# Altium integrated library Altera APEX 20KE.IntLib: 235 symbols (part 17 of 49)
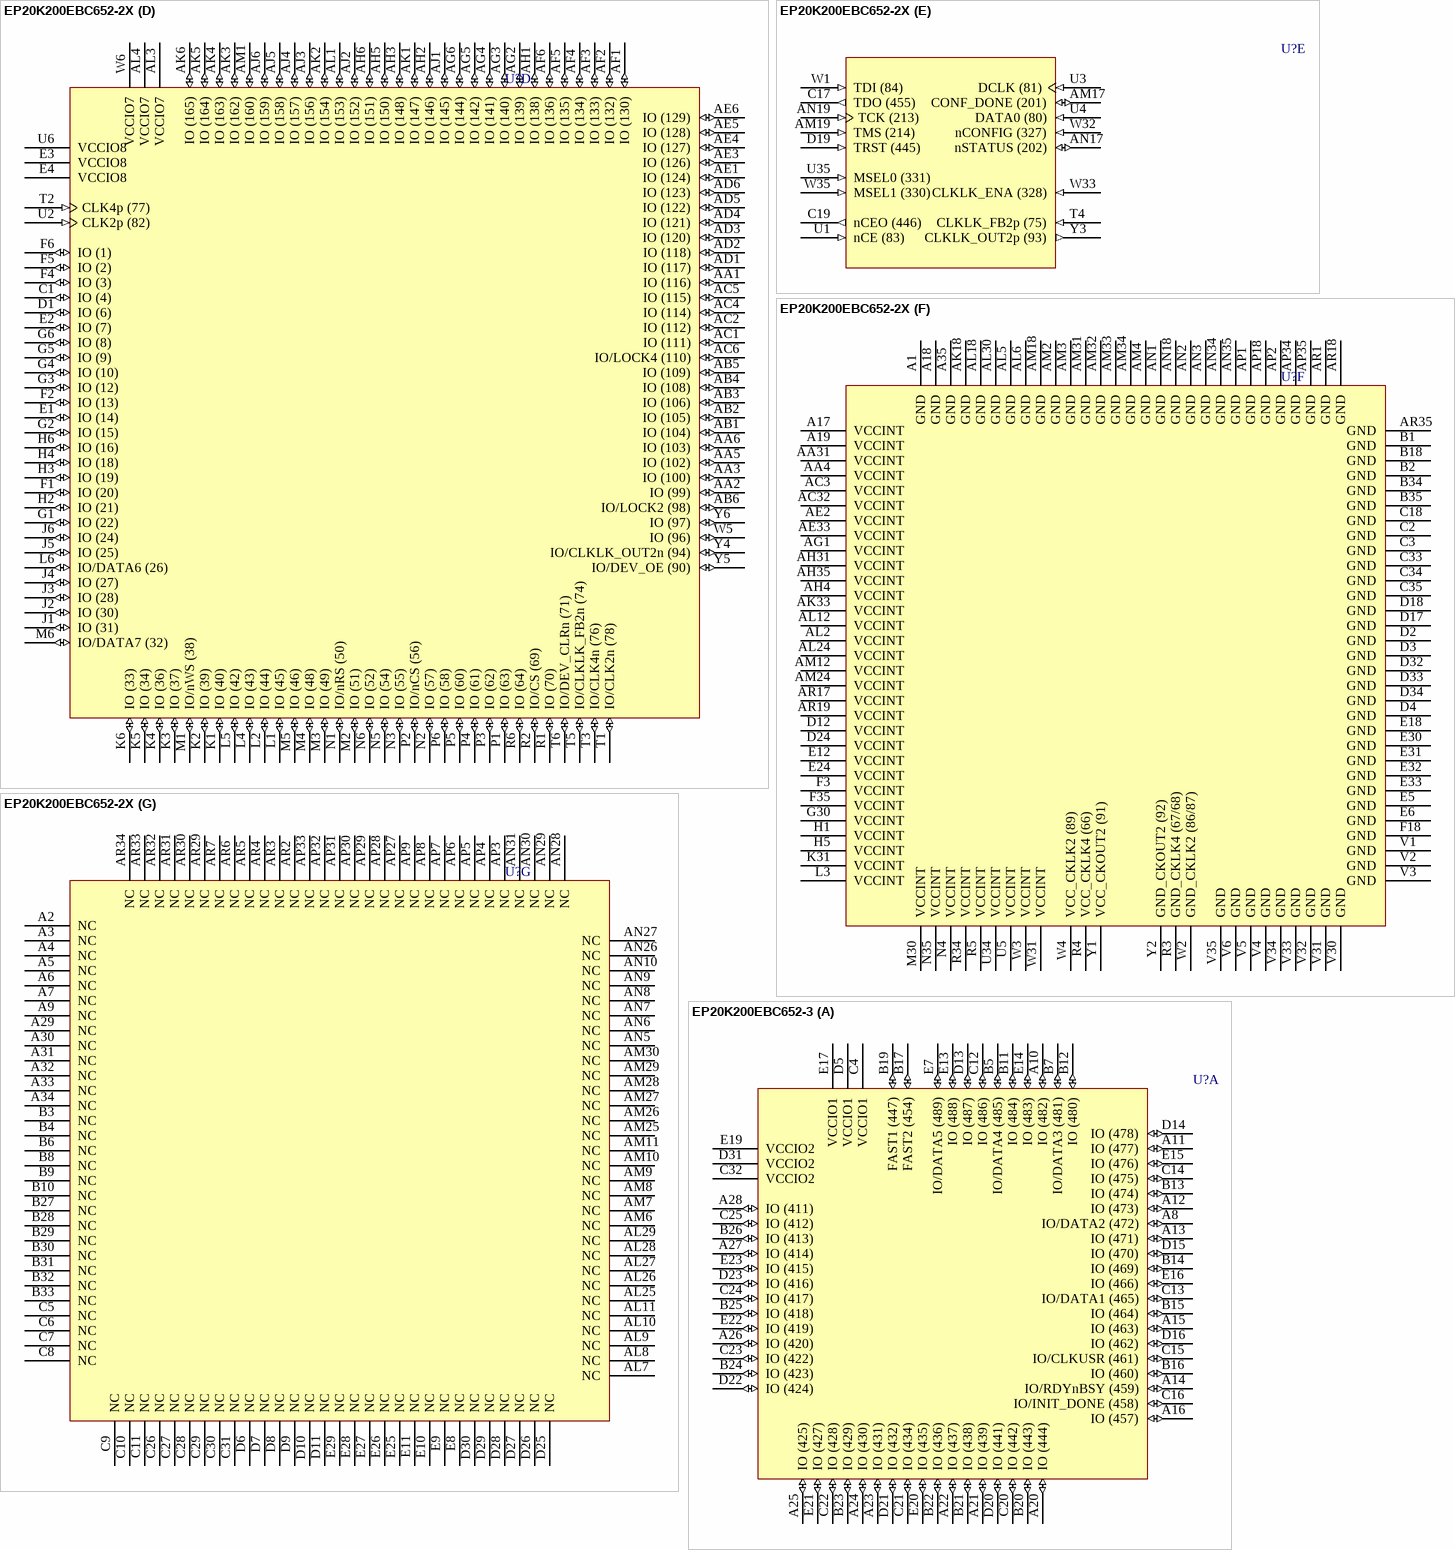
[diagram p415: symbols EP20K200EBC652-2X to EP20K200EBC652-3]

## EP20K200EBC652-2X
designator U?
APEX 20K200E PLD with PLLs and LVDS, 652-Pin BGA, Commercial Grade, Speed Grade 2; Published: 17-Jul-2002; LatestRevisionDate: 13-Apr-2006; LatestRevisionNote: IPC-7351 Footprint Added.; DatasheetVersion: Mar-2004; PackageVersion: ver14.1, Oct-2005; PackageReference: BGA652; Publisher: Altium Limited; PackageDescription: 652-Ball Ball Grid Array (BGA652); Code_JEDEC: MO-192-BAW-1; ComponentLink1Description: Manufacturer Link; ComponentLink1URL: http://www.altera.com/products/devices/apex/apx-index.html; ComponentLink2Description: Datasheet; ComponentLink2URL: http://www.altera.com/literature/ds/apex.pdf
footprint BGA652 (BGA, 652-Leads, Body 45x45mm, Pitch 1.27mm)
3D model EP20K200E-BGA652 (652-Ball Ball Grid Array (BGA652))
part A pins: A8 IO/DATA2 (472) (io), A10 IO (482) (io), A11 IO (477) (io), A12 IO (473) (io), A13 IO (471) (io), A14 IO/RDYnBSY (459) (io), A15 IO (463) (io), A16 IO (457) (io), A20 IO (444) (io), A21 IO (439) (io), A22 IO (437) (io), A23 IO (431) (io), A24 IO (430) (io), A25 IO (425) (io), A26 IO (420) (io), A27 IO (414) (io), A28 IO (411) (io), B5 IO/DATA4 (485) (io), B7 IO/DATA3 (481) (io), B11 IO (484) (io), B12 IO (480) (io), B13 IO (474) (io), B14 IO (469) (io), B15 IO (464) (io), B16 IO (460) (io), B17 FAST2 (454) (io), B19 FAST1 (447) (io), B20 IO (443) (io), B21 IO (438) (io), B22 IO (436) (io), B23 IO (429) (io), B24 IO (423) (io), B25 IO (418) (io), B26 IO (413) (io), C4 VCCIO1 (power), C12 IO (486) (io), C13 IO/DATA1 (465) (io), C14 IO (475) (io), C15 IO/CLKUSR (461) (io), C16 IO/INIT_DONE (458) (io), C20 IO (442) (io), C21 IO (434) (io), C22 IO (428) (io), C23 IO (422) (io), C24 IO (417) (io), C25 IO (412) (io), C32 VCCIO2 (power), D5 VCCIO1 (power), D13 IO (487) (io), D14 IO (478) (io), D15 IO (470) (io), D16 IO (462) (io), D20 IO (441) (io), D21 IO (432) (io), D22 IO (424) (io), D23 IO (416) (io), D31 VCCIO2 (power), E7 IO/DATA5 (489) (io), E13 IO (488) (io), E14 IO (483) (io), E15 IO (476) (io), E16 IO (466) (io), E17 VCCIO1 (power), E19 VCCIO2 (power), E20 IO (435) (io), E21 IO (427) (io), E22 IO (419) (io), E23 IO (415) (io)
part B pins: AA30 IO (313) (io), AA32 IO (315) (io), AA33 IO (316) (io), AA34 IO (317) (io), AA35 IO (318) (io), AB30 IO (306) (io), AB31 IO (307) (io), AB32 IO (309) (io), AB33 IO (310) (io), AB34 IO (311) (io), AB35 IO (312) (io), AC30 IO (300) (io), AC31 IO (301) (io), AC33 IO (303) (io), AC34 IO (304) (io), AC35 IO (305) (io), AD30 IO (293) (io), AD31 IO (294) (io), AD32 IO (295) (io), AD33 IO (297) (io), AD34 IO (298) (io), AD35 IO (299) (io), AE30 IO (287) (io), AE31 IO (288) (io), AE32 IO (289) (io), AE34 IO (291) (io), AE35 IO (292) (io), AF30 IO (280) (io), AF31 IO (281) (io), AF32 IO (282) (io), AF33 IO (283) (io), AF34 IO (285) (io), AF35 IO (286) (io), AG30 IO (273) (io), AG31 IO (274) (io), AG32 IO (275) (io), AG33 IO (276) (io), AG34 IO (277) (io), AG35 IO (279) (io), AH30 IO (265) (io), AH32 IO (267) (io), AH33 IO (268) (io), AH34 IO (270) (io), AJ30 IO (257) (io), AJ31 IO (258) (io), AJ32 IO (259) (io), AJ33 IO (261) (io), AJ34 IO (264) (io), AJ35 IO (271) (io), AK30 IO (251) (io), AK31 IO (252) (io), AK32 IO (253) (io), AK34 IO (262) (io), AK35 IO (269) (io), AL31 VCCIO4 (power), AL32 VCCIO4 (power), AL33 IO (250) (io), AL34 IO (255) (io), AL35 IO (263) (io), AM35 IO (256) (io), D35 IO (405) (io), E34 IO (406) (io), E35 IO (399) (io), F30 VCCIO3 (power), F31 VCCIO3 (power), F32 IO (408) (io), F33 IO (407) (io), F34 IO (400) (io), G31 IO (403) (io), G32 IO (402) (io), G33 IO (401) (io), G34 IO (397) (io), G35 IO (390) (io), H30 IO (396) (io), H31 IO (395) (io), H32 IO (394) (io), H33 IO (393) (io), H34 IO (391) (io), H35 IO (383) (io), J30 IO (389) (io), J31 IO (388) (io), J32 IO (387) (io), J33 IO (385) (io), J34 IO (384) (io), J35 IO (382) (io), K30 IO (381) (io), K32 IO (379) (io), K33 IO (378) (io), K34 IO (377) (io), K35 IO (376) (io), L30 IO (375) (io), L31 IO (373) (io), L32 IO (372) (io), L33 IO (371) (io), L34 IO (370) (io), L35 IO (369) (io), M31 IO (367) (io), M32 IO (366) (io), M33 IO (365) (io), M34 IO (364) (io), M35 IO (363) (io), N30 IO (361) (io), N31 IO (360) (io), N32 IO (359) (io), N33 IO (358) (io), N34 IO (357) (io), P30 IO (355) (io), P31 IO (354) (io), P32 IO (353) (io), P33 IO (352) (io), P34 IO (351) (io), P35 IO (349) (io), R30 IO (348) (io), R31 IO (347) (io), R32 IO (346) (io), R33 IO (345) (io), R35 IO (343) (io), T30 IO (342) (io), T31 IO (341) (io), T32 IO (340) (io), T33 IO (339) (io), T34 IO (337) (io), T35 IO (336) (io), U30 VCCIO3 (power), U31 IO (335) (io), U32 IO (334) (io), U33 IO (333) (io), W30 VCCIO4 (power), W34 CLK1p (329) (in), Y30 IO (319) (io), Y31 IO (321) (io), Y32 IO (322) (io), Y33 IO/CLK3n (323) (io), Y34 CLK3p (324) (in), Y35 IO/CLK1n (325) (io)
part C pins: AL13 IO (172) (io), AL14 IO (176) (io), AL15 IO (183) (io), AL16 IO (191) (io), AL17 VCCIO6 (power), AL19 VCCIO5 (power), AL20 IO (223) (io), AL21 IO (231) (io), AL22 IO (239) (io), AL23 IO (243) (io), AM5 VCCIO6 (power), AM13 IO (173) (io), AM14 IO (181) (io), AM15 IO (188) (io), AM16 IO (197) (io), AM20 IO (218) (io), AM21 IO (226) (io), AM22 IO (233) (io), AM23 IO (242) (io), AN4 VCCIO6 (power), AN11 IO (169) (io), AN12 IO (174) (io), AN13 IO (179) (io), AN14 IO (184) (io), AN15 IO (190) (io), AN16 IO (198) (io), AN20 IO (217) (io), AN21 IO (224) (io), AN22 IO (230) (io), AN23 IO (235) (io), AN24 IO (241) (io), AN25 IO (246) (io), AN32 VCCIO5 (power), AN33 VCCIO5 (power), AP10 IO (170) (io), AP11 IO (175) (io), AP12 IO (180) (io), AP13 IO (185) (io), AP14 IO (192) (io), AP15 IO (194) (io), AP16 IO (199) (io), AP17 FAST4 (203) (io), AP19 FAST3 (212) (io), AP20 IO (216) (io), AP21 IO (220) (io), AP22 IO (222) (io), AP23 IO (229) (io), AP24 IO (234) (io), AP25 IO (240) (io), AP26 IO (245) (io), AR8 IO (168) (io), AR9 IO (171) (io), AR10 IO (177) (io), AR11 IO (182) (io), AR12 IO (186) (io), AR13 IO (187) (io), AR14 IO (193) (io), AR15 IO (195) (io), AR16 IO (200) (io), AR20 IO (215) (io), AR21 IO (219) (io), AR22 IO (221) (io), AR23 IO (227) (io), AR24 IO (228) (io), AR25 IO (232) (io), AR26 IO (238) (io), AR27 IO (244) (io), AR28 IO (247) (io)
part D pins: AA1 IO (116) (io), AA2 IO (99) (io), AA3 IO (100) (io), AA5 IO (102) (io), AA6 IO (103) (io), AB1 IO (104) (io), AB2 IO (105) (io), AB3 IO (106) (io), AB4 IO (108) (io), AB5 IO (109) (io), AB6 IO/LOCK2 (98) (io), AC1 IO (111) (io), AC2 IO (112) (io), AC4 IO (114) (io), AC5 IO (115) (io), AC6 IO/LOCK4 (110) (io), AD1 IO (117) (io), AD2 IO (118) (io), AD3 IO (120) (io), AD4 IO (121) (io), AD5 IO (122) (io), AD6 IO (123) (io), AE1 IO (124) (io), AE3 IO (126) (io), AE4 IO (127) (io), AE5 IO (128) (io), AE6 IO (129) (io), AF1 IO (130) (io), AF2 IO (132) (io), AF3 IO (133) (io), AF4 IO (134) (io), AF5 IO (135) (io), AF6 IO (136) (io), AG2 IO (139) (io), AG3 IO (140) (io), AG4 IO (141) (io), AG5 IO (142) (io), AG6 IO (144) (io), AH1 IO (138) (io), AH2 IO (146) (io), AH3 IO (148) (io), AH5 IO (150) (io), AH6 IO (151) (io), AJ1 IO (145) (io), AJ2 IO (152) (io), AJ3 IO (156) (io), AJ4 IO (157) (io), AJ5 IO (158) (io), AJ6 IO (159) (io), AK1 IO (147) (io), AK2 IO (154) (io), AK3 IO (162) (io), AK4 IO (163) (io), AK5 IO (164) (io), AK6 IO (165) (io), AL1 IO (153) (io), AL3 VCCIO7 (power), AL4 VCCIO7 (power), AM1 IO (160) (io), C1 IO (4) (io), D1 IO (6) (io), E1 IO (14) (io), E2 IO (7) (io), E3 VCCIO8 (power), E4 VCCIO8 (power), F1 IO (20) (io), F2 IO (13) (io), F4 IO (3) (io), F5 IO (2) (io), F6 IO (1) (io), G1 IO (22) (io), G2 IO (15) (io), G3 IO (12) (io), G4 IO (10) (io), G5 IO (9) (io), G6 IO (8) (io), H2 IO (21) (io), H3 IO (19) (io), H4 IO (18) (io), H6 IO (16) (io), J1 IO (31) (io), J2 IO (30) (io), J3 IO (28) (io), J4 IO (27) (io), J5 IO (25) (io), J6 IO (24) (io), K1 IO (40) (io), K2 IO (39) (io), K3 IO (37) (io), K4 IO (36) (io), K5 IO (34) (io), K6 IO (33) (io), L1 IO (45) (io), L2 IO (44) (io), L4 IO (43) (io), L5 IO (42) (io), L6 IO/DATA6 (26) (io), M1 IO/nWS (38) (io), M2 IO (51) (io), M3 IO (49) (io), M4 IO (48) (io), M5 IO (46) (io), M6 IO/DATA7 (32) (io), N1 IO/nRS (50) (io), N2 IO (57) (io), N3 IO (55) (io), N5 IO (54) (io), N6 IO (52) (io), P1 IO (63) (io), P2 IO/nCS (56) (io), P3 IO (62) (io), P4 IO (61) (io), P5 IO (60) (io), P6 IO (58) (io), R1 IO (70) (io), R2 IO/CS (69) (io), R6 IO (64) (io), T1 IO/CLK2n (78) (io), T2 CLK4p (77) (in), T3 IO/CLK4n (76) (io), T5 IO/CLKLK_FB2n (74) (io), T6 IO/DEV_CLRn (71) (io), U2 CLK2p (82) (in), U6 VCCIO8 (power), W5 IO (96) (io), W6 VCCIO7 (power), Y4 IO/CLKLK_OUT2n (94) (io), Y5 IO/DEV_OE (90) (io), Y6 IO (97) (io)
part E pins: AM17 CONF_DONE (201) (io), AM19 TMS (214) (in), AN17 nSTATUS (202) (io), AN19 TCK (213) (in), C17 TDO (455) (out), C19 nCEO (446) (out), D19 TRST (445) (in), T4 CLKLK_FB2p (75) (in), U1 nCE (83) (in), U3 DCLK (81) (in), U4 DATA0 (80) (in), U35 MSEL0 (331) (in), W1 TDI (84) (in), W32 nCONFIG (327) (in), W33 CLKLK_ENA (328) (in), W35 MSEL1 (330) (in), Y3 CLKLK_OUT2p (93) (out)
part F pins: A1 GND (power), A17 VCCINT (power), A18 GND (power), A19 VCCINT (power), A35 GND (power), AA4 VCCINT (power), AA31 VCCINT (power), AC3 VCCINT (power), AC32 VCCINT (power), AE2 VCCINT (power), AE33 VCCINT (power), AG1 VCCINT (power), AH4 VCCINT (power), AH31 VCCINT (power), AH35 VCCINT (power), AK18 GND (power), AK33 VCCINT (power), AL2 VCCINT (power), AL5 GND (power), AL6 GND (power), AL12 VCCINT (power), AL18 GND (power), AL24 VCCINT (power), AL30 GND (power), AM2 GND (power), AM3 GND (power), AM4 GND (power), AM12 VCCINT (power), AM18 GND (power), AM24 VCCINT (power), AM31 GND (power), AM32 GND (power), AM33 GND (power), AM34 GND (power), AN1 GND (power), AN2 GND (power), AN3 GND (power), AN18 GND (power), AN34 GND (power), AN35 GND (power), AP1 GND (power), AP2 GND (power), AP18 GND (power), AP34 GND (power), AP35 GND (power), AR1 GND (power), AR17 VCCINT (power), AR18 GND (power), AR19 VCCINT (power), AR35 GND (power), B1 GND (power), B2 GND (power), B18 GND (power), B34 GND (power), B35 GND (power), C2 GND (power), C3 GND (power), C18 GND (power), C33 GND (power), C34 GND (power), C35 GND (power), D2 GND (power), D3 GND (power), D4 GND (power), D12 VCCINT (power), D17 GND (power), D18 GND (power), D24 VCCINT (power), D32 GND (power), D33 GND (power), D34 GND (power), E5 GND (power), E6 GND (power), E12 VCCINT (power), E18 GND (power), E24 VCCINT (power), E30 GND (power), E31 GND (power), E32 GND (power), E33 GND (power), F3 VCCINT (power), F18 GND (power), F35 VCCINT (power), G30 VCCINT (power), H1 VCCINT (power), H5 VCCINT (power), K31 VCCINT (power), L3 VCCINT (power), M30 VCCINT (power), N4 VCCINT (power), N35 VCCINT (power), R3 GND_CKLK4 (67/68) (power), R4 VCC_CKLK4 (66) (power), R5 VCCINT (power), R34 VCCINT (power), U5 VCCINT (power), U34 VCCINT (power), V1 GND (power), V2 GND (power), V3 GND (power), V4 GND (power), V5 GND (power), V6 GND (power), V30 GND (power), V31 GND (power), V32 GND (power), V33 GND (power), V34 GND (power), V35 GND (power), W2 GND_CKLK2 (86/87) (power), W3 VCCINT (power), W4 VCC_CKLK2 (89) (power), W31 VCCINT (power), Y1 VCC_CKOUT2 (91) (power), Y2 GND_CKOUT2 (92) (power)
part G pins: A2 NC, A3 NC, A4 NC, A5 NC, A6 NC, A7 NC, A9 NC, A29 NC, A30 NC, A31 NC, A32 NC, A33 NC, A34 NC, AL7 NC, AL8 NC, AL9 NC, AL10 NC, AL11 NC, AL25 NC, AL26 NC, AL27 NC, AL28 NC, AL29 NC, AM6 NC, AM7 NC, AM8 NC, AM9 NC, AM10 NC, AM11 NC, AM25 NC, AM26 NC, AM27 NC, AM28 NC, AM29 NC, AM30 NC, AN5 NC, AN6 NC, AN7 NC, AN8 NC, AN9 NC, AN10 NC, AN26 NC, AN27 NC, AN28 NC, AN29 NC, AN30 NC, AN31 NC, AP3 NC, AP4 NC, AP5 NC, AP6 NC, AP7 NC, AP8 NC, AP9 NC, AP27 NC, AP28 NC, AP29 NC, AP30 NC, AP31 NC, AP32 NC, AP33 NC, AR2 NC, AR3 NC, AR4 NC, AR5 NC, AR6 NC, AR7 NC, AR29 NC, AR30 NC, AR31 NC, AR32 NC, AR33 NC, AR34 NC, B3 NC, B4 NC, B6 NC, B8 NC, B9 NC, B10 NC, B27 NC, B28 NC, B29 NC, B30 NC, B31 NC, B32 NC, B33 NC, C5 NC, C6 NC, C7 NC, C8 NC, C9 NC, C10 NC, C11 NC, C26 NC, C27 NC, C28 NC, C29 NC, C30 NC, C31 NC, D6 NC, D7 NC, D8 NC, D9 NC, D10 NC, D11 NC, D25 NC, D26 NC, D27 NC, D28 NC, D29 NC, D30 NC, E8 NC, E9 NC, E10 NC, E11 NC, E25 NC, E26 NC, E27 NC, E28 NC, E29 NC

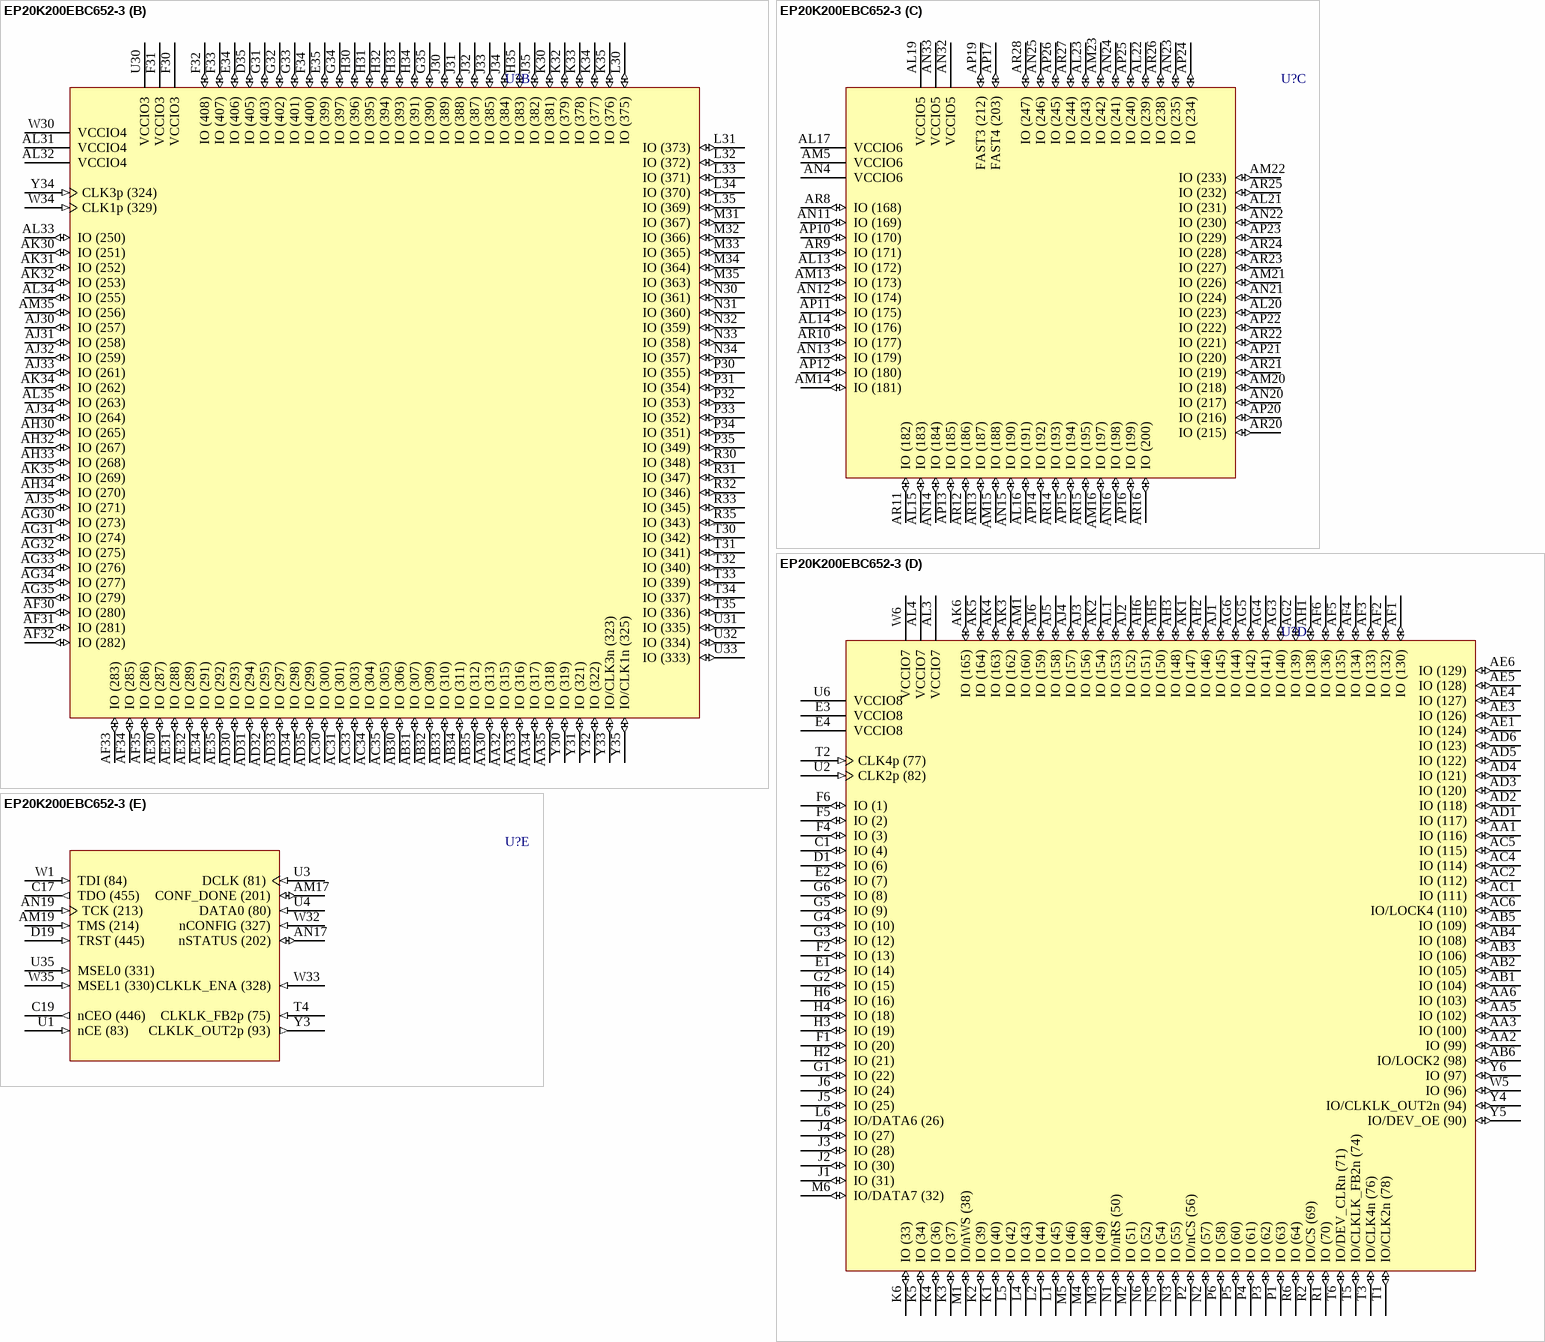
[diagram p179: symbol EP20K200EBC652-3]

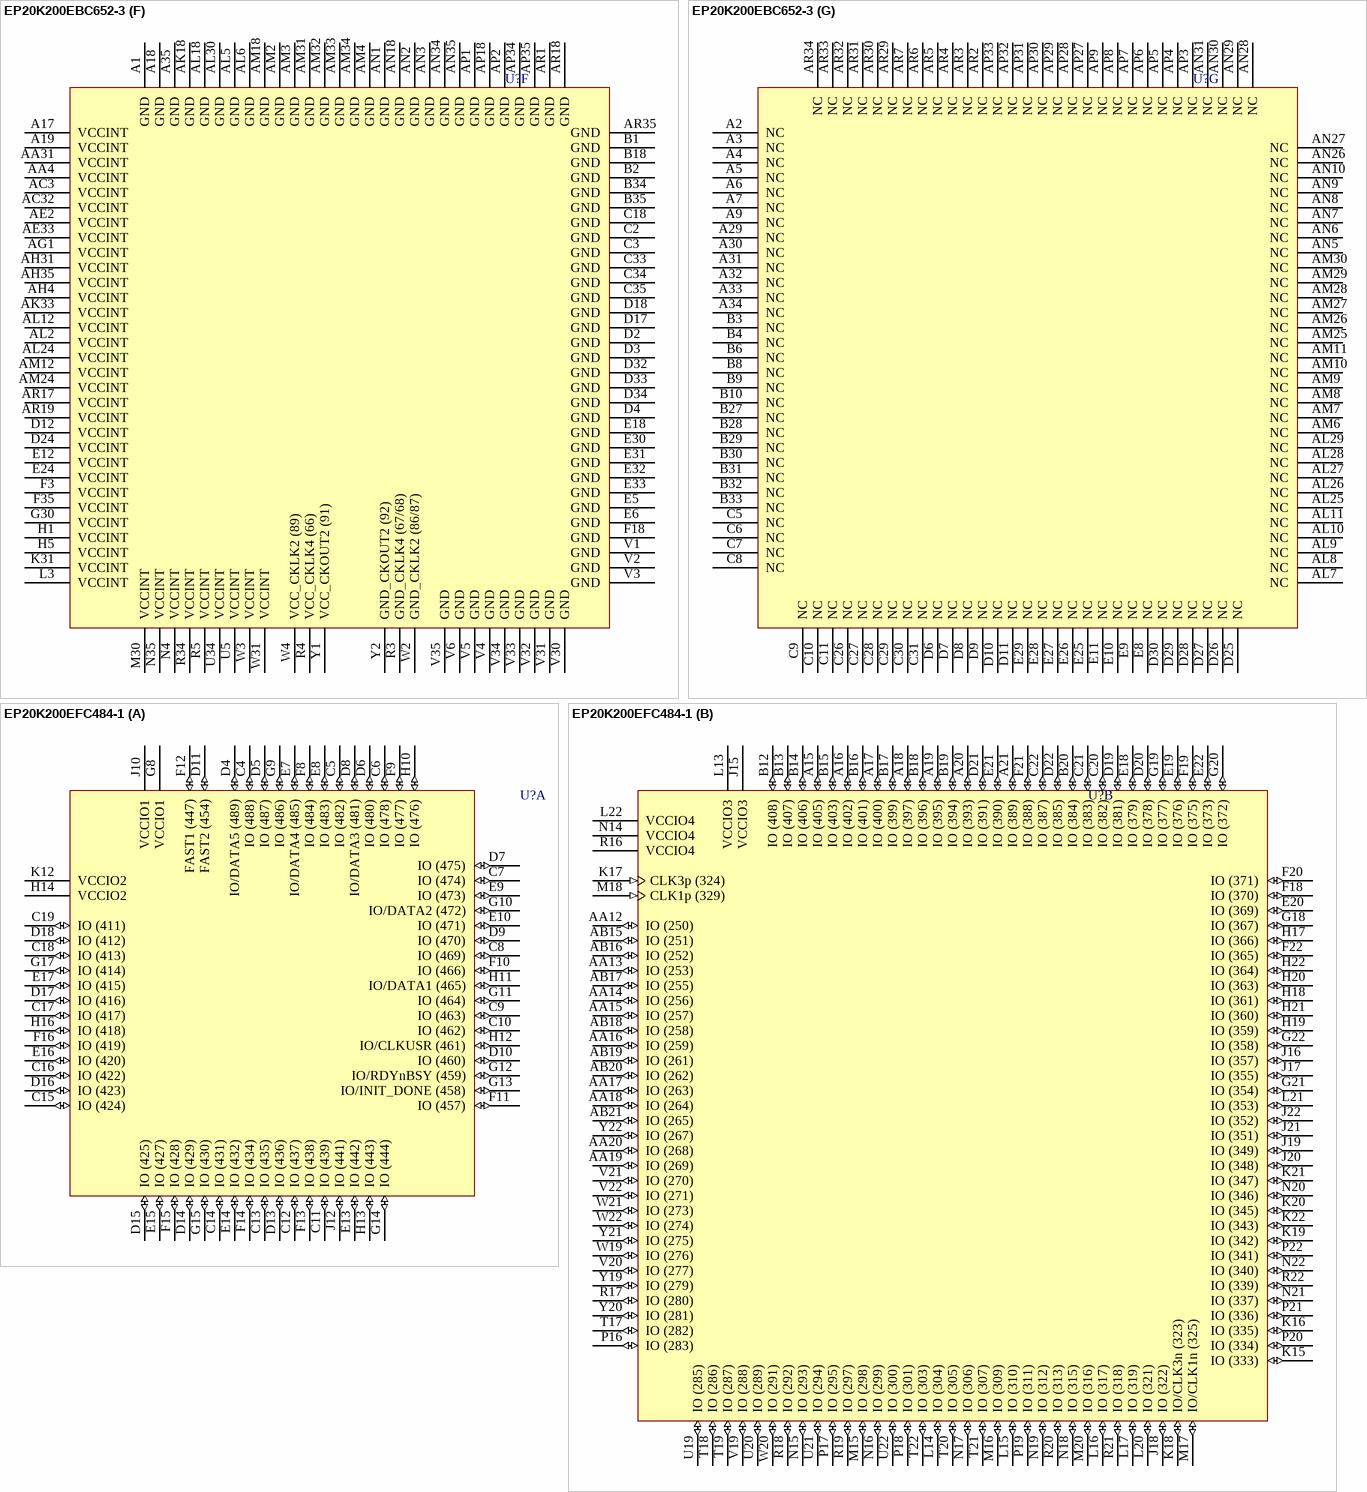
[diagram p180: symbols EP20K200EBC652-3 to EP20K200EFC484-1]

## EP20K200EBC652-3
designator U?
APEX 20K200E PLD, 652-Pin BGA, Commercial Grade, Speed Grade 3; Published: 17-Jul-2002; LatestRevisionDate: 13-Apr-2006; LatestRevisionNote: IPC-7351 Footprint Added.; DatasheetVersion: Mar-2004; PackageVersion: ver14.1, Oct-2005; PackageReference: BGA652; Publisher: Altium Limited; PackageDescription: 652-Ball Ball Grid Array (BGA652); Code_JEDEC: MO-192-BAW-1; ComponentLink1Description: Manufacturer Link; ComponentLink1URL: http://www.altera.com/products/devices/apex/apx-index.html; ComponentLink2Description: Datasheet; ComponentLink2URL: http://www.altera.com/literature/ds/apex.pdf
footprint BGA652 (BGA, 652-Leads, Body 45x45mm, Pitch 1.27mm)
3D model EP20K200E-BGA652 (652-Ball Ball Grid Array (BGA652))
part A pins: A8 IO/DATA2 (472) (io), A10 IO (482) (io), A11 IO (477) (io), A12 IO (473) (io), A13 IO (471) (io), A14 IO/RDYnBSY (459) (io), A15 IO (463) (io), A16 IO (457) (io), A20 IO (444) (io), A21 IO (439) (io), A22 IO (437) (io), A23 IO (431) (io), A24 IO (430) (io), A25 IO (425) (io), A26 IO (420) (io), A27 IO (414) (io), A28 IO (411) (io), B5 IO/DATA4 (485) (io), B7 IO/DATA3 (481) (io), B11 IO (484) (io), B12 IO (480) (io), B13 IO (474) (io), B14 IO (469) (io), B15 IO (464) (io), B16 IO (460) (io), B17 FAST2 (454) (io), B19 FAST1 (447) (io), B20 IO (443) (io), B21 IO (438) (io), B22 IO (436) (io), B23 IO (429) (io), B24 IO (423) (io), B25 IO (418) (io), B26 IO (413) (io), C4 VCCIO1 (power), C12 IO (486) (io), C13 IO/DATA1 (465) (io), C14 IO (475) (io), C15 IO/CLKUSR (461) (io), C16 IO/INIT_DONE (458) (io), C20 IO (442) (io), C21 IO (434) (io), C22 IO (428) (io), C23 IO (422) (io), C24 IO (417) (io), C25 IO (412) (io), C32 VCCIO2 (power), D5 VCCIO1 (power), D13 IO (487) (io), D14 IO (478) (io), D15 IO (470) (io), D16 IO (462) (io), D20 IO (441) (io), D21 IO (432) (io), D22 IO (424) (io), D23 IO (416) (io), D31 VCCIO2 (power), E7 IO/DATA5 (489) (io), E13 IO (488) (io), E14 IO (483) (io), E15 IO (476) (io), E16 IO (466) (io), E17 VCCIO1 (power), E19 VCCIO2 (power), E20 IO (435) (io), E21 IO (427) (io), E22 IO (419) (io), E23 IO (415) (io)
part B pins: AA30 IO (313) (io), AA32 IO (315) (io), AA33 IO (316) (io), AA34 IO (317) (io), AA35 IO (318) (io), AB30 IO (306) (io), AB31 IO (307) (io), AB32 IO (309) (io), AB33 IO (310) (io), AB34 IO (311) (io), AB35 IO (312) (io), AC30 IO (300) (io), AC31 IO (301) (io), AC33 IO (303) (io), AC34 IO (304) (io), AC35 IO (305) (io), AD30 IO (293) (io), AD31 IO (294) (io), AD32 IO (295) (io), AD33 IO (297) (io), AD34 IO (298) (io), AD35 IO (299) (io), AE30 IO (287) (io), AE31 IO (288) (io), AE32 IO (289) (io), AE34 IO (291) (io), AE35 IO (292) (io), AF30 IO (280) (io), AF31 IO (281) (io), AF32 IO (282) (io), AF33 IO (283) (io), AF34 IO (285) (io), AF35 IO (286) (io), AG30 IO (273) (io), AG31 IO (274) (io), AG32 IO (275) (io), AG33 IO (276) (io), AG34 IO (277) (io), AG35 IO (279) (io), AH30 IO (265) (io), AH32 IO (267) (io), AH33 IO (268) (io), AH34 IO (270) (io), AJ30 IO (257) (io), AJ31 IO (258) (io), AJ32 IO (259) (io), AJ33 IO (261) (io), AJ34 IO (264) (io), AJ35 IO (271) (io), AK30 IO (251) (io), AK31 IO (252) (io), AK32 IO (253) (io), AK34 IO (262) (io), AK35 IO (269) (io), AL31 VCCIO4 (power), AL32 VCCIO4 (power), AL33 IO (250) (io), AL34 IO (255) (io), AL35 IO (263) (io), AM35 IO (256) (io), D35 IO (405) (io), E34 IO (406) (io), E35 IO (399) (io), F30 VCCIO3 (power), F31 VCCIO3 (power), F32 IO (408) (io), F33 IO (407) (io), F34 IO (400) (io), G31 IO (403) (io), G32 IO (402) (io), G33 IO (401) (io), G34 IO (397) (io), G35 IO (390) (io), H30 IO (396) (io), H31 IO (395) (io), H32 IO (394) (io), H33 IO (393) (io), H34 IO (391) (io), H35 IO (383) (io), J30 IO (389) (io), J31 IO (388) (io), J32 IO (387) (io), J33 IO (385) (io), J34 IO (384) (io), J35 IO (382) (io), K30 IO (381) (io), K32 IO (379) (io), K33 IO (378) (io), K34 IO (377) (io), K35 IO (376) (io), L30 IO (375) (io), L31 IO (373) (io), L32 IO (372) (io), L33 IO (371) (io), L34 IO (370) (io), L35 IO (369) (io), M31 IO (367) (io), M32 IO (366) (io), M33 IO (365) (io), M34 IO (364) (io), M35 IO (363) (io), N30 IO (361) (io), N31 IO (360) (io), N32 IO (359) (io), N33 IO (358) (io), N34 IO (357) (io), P30 IO (355) (io), P31 IO (354) (io), P32 IO (353) (io), P33 IO (352) (io), P34 IO (351) (io), P35 IO (349) (io), R30 IO (348) (io), R31 IO (347) (io), R32 IO (346) (io), R33 IO (345) (io), R35 IO (343) (io), T30 IO (342) (io), T31 IO (341) (io), T32 IO (340) (io), T33 IO (339) (io), T34 IO (337) (io), T35 IO (336) (io), U30 VCCIO3 (power), U31 IO (335) (io), U32 IO (334) (io), U33 IO (333) (io), W30 VCCIO4 (power), W34 CLK1p (329) (in), Y30 IO (319) (io), Y31 IO (321) (io), Y32 IO (322) (io), Y33 IO/CLK3n (323) (io), Y34 CLK3p (324) (in), Y35 IO/CLK1n (325) (io)
part C pins: AL13 IO (172) (io), AL14 IO (176) (io), AL15 IO (183) (io), AL16 IO (191) (io), AL17 VCCIO6 (power), AL19 VCCIO5 (power), AL20 IO (223) (io), AL21 IO (231) (io), AL22 IO (239) (io), AL23 IO (243) (io), AM5 VCCIO6 (power), AM13 IO (173) (io), AM14 IO (181) (io), AM15 IO (188) (io), AM16 IO (197) (io), AM20 IO (218) (io), AM21 IO (226) (io), AM22 IO (233) (io), AM23 IO (242) (io), AN4 VCCIO6 (power), AN11 IO (169) (io), AN12 IO (174) (io), AN13 IO (179) (io), AN14 IO (184) (io), AN15 IO (190) (io), AN16 IO (198) (io), AN20 IO (217) (io), AN21 IO (224) (io), AN22 IO (230) (io), AN23 IO (235) (io), AN24 IO (241) (io), AN25 IO (246) (io), AN32 VCCIO5 (power), AN33 VCCIO5 (power), AP10 IO (170) (io), AP11 IO (175) (io), AP12 IO (180) (io), AP13 IO (185) (io), AP14 IO (192) (io), AP15 IO (194) (io), AP16 IO (199) (io), AP17 FAST4 (203) (io), AP19 FAST3 (212) (io), AP20 IO (216) (io), AP21 IO (220) (io), AP22 IO (222) (io), AP23 IO (229) (io), AP24 IO (234) (io), AP25 IO (240) (io), AP26 IO (245) (io), AR8 IO (168) (io), AR9 IO (171) (io), AR10 IO (177) (io), AR11 IO (182) (io), AR12 IO (186) (io), AR13 IO (187) (io), AR14 IO (193) (io), AR15 IO (195) (io), AR16 IO (200) (io), AR20 IO (215) (io), AR21 IO (219) (io), AR22 IO (221) (io), AR23 IO (227) (io), AR24 IO (228) (io), AR25 IO (232) (io), AR26 IO (238) (io), AR27 IO (244) (io), AR28 IO (247) (io)
part D pins: AA1 IO (116) (io), AA2 IO (99) (io), AA3 IO (100) (io), AA5 IO (102) (io), AA6 IO (103) (io), AB1 IO (104) (io), AB2 IO (105) (io), AB3 IO (106) (io), AB4 IO (108) (io), AB5 IO (109) (io), AB6 IO/LOCK2 (98) (io), AC1 IO (111) (io), AC2 IO (112) (io), AC4 IO (114) (io), AC5 IO (115) (io), AC6 IO/LOCK4 (110) (io), AD1 IO (117) (io), AD2 IO (118) (io), AD3 IO (120) (io), AD4 IO (121) (io), AD5 IO (122) (io), AD6 IO (123) (io), AE1 IO (124) (io), AE3 IO (126) (io), AE4 IO (127) (io), AE5 IO (128) (io), AE6 IO (129) (io), AF1 IO (130) (io), AF2 IO (132) (io), AF3 IO (133) (io), AF4 IO (134) (io), AF5 IO (135) (io), AF6 IO (136) (io), AG2 IO (139) (io), AG3 IO (140) (io), AG4 IO (141) (io), AG5 IO (142) (io), AG6 IO (144) (io), AH1 IO (138) (io), AH2 IO (146) (io), AH3 IO (148) (io), AH5 IO (150) (io), AH6 IO (151) (io), AJ1 IO (145) (io), AJ2 IO (152) (io), AJ3 IO (156) (io), AJ4 IO (157) (io), AJ5 IO (158) (io), AJ6 IO (159) (io), AK1 IO (147) (io), AK2 IO (154) (io), AK3 IO (162) (io), AK4 IO (163) (io), AK5 IO (164) (io), AK6 IO (165) (io), AL1 IO (153) (io), AL3 VCCIO7 (power), AL4 VCCIO7 (power), AM1 IO (160) (io), C1 IO (4) (io), D1 IO (6) (io), E1 IO (14) (io), E2 IO (7) (io), E3 VCCIO8 (power), E4 VCCIO8 (power), F1 IO (20) (io), F2 IO (13) (io), F4 IO (3) (io), F5 IO (2) (io), F6 IO (1) (io), G1 IO (22) (io), G2 IO (15) (io), G3 IO (12) (io), G4 IO (10) (io), G5 IO (9) (io), G6 IO (8) (io), H2 IO (21) (io), H3 IO (19) (io), H4 IO (18) (io), H6 IO (16) (io), J1 IO (31) (io), J2 IO (30) (io), J3 IO (28) (io), J4 IO (27) (io), J5 IO (25) (io), J6 IO (24) (io), K1 IO (40) (io), K2 IO (39) (io), K3 IO (37) (io), K4 IO (36) (io), K5 IO (34) (io), K6 IO (33) (io), L1 IO (45) (io), L2 IO (44) (io), L4 IO (43) (io), L5 IO (42) (io), L6 IO/DATA6 (26) (io), M1 IO/nWS (38) (io), M2 IO (51) (io), M3 IO (49) (io), M4 IO (48) (io), M5 IO (46) (io), M6 IO/DATA7 (32) (io), N1 IO/nRS (50) (io), N2 IO (57) (io), N3 IO (55) (io), N5 IO (54) (io), N6 IO (52) (io), P1 IO (63) (io), P2 IO/nCS (56) (io), P3 IO (62) (io), P4 IO (61) (io), P5 IO (60) (io), P6 IO (58) (io), R1 IO (70) (io), R2 IO/CS (69) (io), R6 IO (64) (io), T1 IO/CLK2n (78) (io), T2 CLK4p (77) (in), T3 IO/CLK4n (76) (io), T5 IO/CLKLK_FB2n (74) (io), T6 IO/DEV_CLRn (71) (io), U2 CLK2p (82) (in), U6 VCCIO8 (power), W5 IO (96) (io), W6 VCCIO7 (power), Y4 IO/CLKLK_OUT2n (94) (io), Y5 IO/DEV_OE (90) (io), Y6 IO (97) (io)
part E pins: AM17 CONF_DONE (201) (io), AM19 TMS (214) (in), AN17 nSTATUS (202) (io), AN19 TCK (213) (in), C17 TDO (455) (out), C19 nCEO (446) (out), D19 TRST (445) (in), T4 CLKLK_FB2p (75) (in), U1 nCE (83) (in), U3 DCLK (81) (in), U4 DATA0 (80) (in), U35 MSEL0 (331) (in), W1 TDI (84) (in), W32 nCONFIG (327) (in), W33 CLKLK_ENA (328) (in), W35 MSEL1 (330) (in), Y3 CLKLK_OUT2p (93) (out)
part F pins: A1 GND (power), A17 VCCINT (power), A18 GND (power), A19 VCCINT (power), A35 GND (power), AA4 VCCINT (power), AA31 VCCINT (power), AC3 VCCINT (power), AC32 VCCINT (power), AE2 VCCINT (power), AE33 VCCINT (power), AG1 VCCINT (power), AH4 VCCINT (power), AH31 VCCINT (power), AH35 VCCINT (power), AK18 GND (power), AK33 VCCINT (power), AL2 VCCINT (power), AL5 GND (power), AL6 GND (power), AL12 VCCINT (power), AL18 GND (power), AL24 VCCINT (power), AL30 GND (power), AM2 GND (power), AM3 GND (power), AM4 GND (power), AM12 VCCINT (power), AM18 GND (power), AM24 VCCINT (power), AM31 GND (power), AM32 GND (power), AM33 GND (power), AM34 GND (power), AN1 GND (power), AN2 GND (power), AN3 GND (power), AN18 GND (power), AN34 GND (power), AN35 GND (power), AP1 GND (power), AP2 GND (power), AP18 GND (power), AP34 GND (power), AP35 GND (power), AR1 GND (power), AR17 VCCINT (power), AR18 GND (power), AR19 VCCINT (power), AR35 GND (power), B1 GND (power), B2 GND (power), B18 GND (power), B34 GND (power), B35 GND (power), C2 GND (power), C3 GND (power), C18 GND (power), C33 GND (power), C34 GND (power), C35 GND (power), D2 GND (power), D3 GND (power), D4 GND (power), D12 VCCINT (power), D17 GND (power), D18 GND (power), D24 VCCINT (power), D32 GND (power), D33 GND (power), D34 GND (power), E5 GND (power), E6 GND (power), E12 VCCINT (power), E18 GND (power), E24 VCCINT (power), E30 GND (power), E31 GND (power), E32 GND (power), E33 GND (power), F3 VCCINT (power), F18 GND (power), F35 VCCINT (power), G30 VCCINT (power), H1 VCCINT (power), H5 VCCINT (power), K31 VCCINT (power), L3 VCCINT (power), M30 VCCINT (power), N4 VCCINT (power), N35 VCCINT (power), R3 GND_CKLK4 (67/68) (power), R4 VCC_CKLK4 (66) (power), R5 VCCINT (power), R34 VCCINT (power), U5 VCCINT (power), U34 VCCINT (power), V1 GND (power), V2 GND (power), V3 GND (power), V4 GND (power), V5 GND (power), V6 GND (power), V30 GND (power), V31 GND (power), V32 GND (power), V33 GND (power), V34 GND (power), V35 GND (power), W2 GND_CKLK2 (86/87) (power), W3 VCCINT (power), W4 VCC_CKLK2 (89) (power), W31 VCCINT (power), Y1 VCC_CKOUT2 (91) (power), Y2 GND_CKOUT2 (92) (power)
part G pins: A2 NC, A3 NC, A4 NC, A5 NC, A6 NC, A7 NC, A9 NC, A29 NC, A30 NC, A31 NC, A32 NC, A33 NC, A34 NC, AL7 NC, AL8 NC, AL9 NC, AL10 NC, AL11 NC, AL25 NC, AL26 NC, AL27 NC, AL28 NC, AL29 NC, AM6 NC, AM7 NC, AM8 NC, AM9 NC, AM10 NC, AM11 NC, AM25 NC, AM26 NC, AM27 NC, AM28 NC, AM29 NC, AM30 NC, AN5 NC, AN6 NC, AN7 NC, AN8 NC, AN9 NC, AN10 NC, AN26 NC, AN27 NC, AN28 NC, AN29 NC, AN30 NC, AN31 NC, AP3 NC, AP4 NC, AP5 NC, AP6 NC, AP7 NC, AP8 NC, AP9 NC, AP27 NC, AP28 NC, AP29 NC, AP30 NC, AP31 NC, AP32 NC, AP33 NC, AR2 NC, AR3 NC, AR4 NC, AR5 NC, AR6 NC, AR7 NC, AR29 NC, AR30 NC, AR31 NC, AR32 NC, AR33 NC, AR34 NC, B3 NC, B4 NC, B6 NC, B8 NC, B9 NC, B10 NC, B27 NC, B28 NC, B29 NC, B30 NC, B31 NC, B32 NC, B33 NC, C5 NC, C6 NC, C7 NC, C8 NC, C9 NC, C10 NC, C11 NC, C26 NC, C27 NC, C28 NC, C29 NC, C30 NC, C31 NC, D6 NC, D7 NC, D8 NC, D9 NC, D10 NC, D11 NC, D25 NC, D26 NC, D27 NC, D28 NC, D29 NC, D30 NC, E8 NC, E9 NC, E10 NC, E11 NC, E25 NC, E26 NC, E27 NC, E28 NC, E29 NC

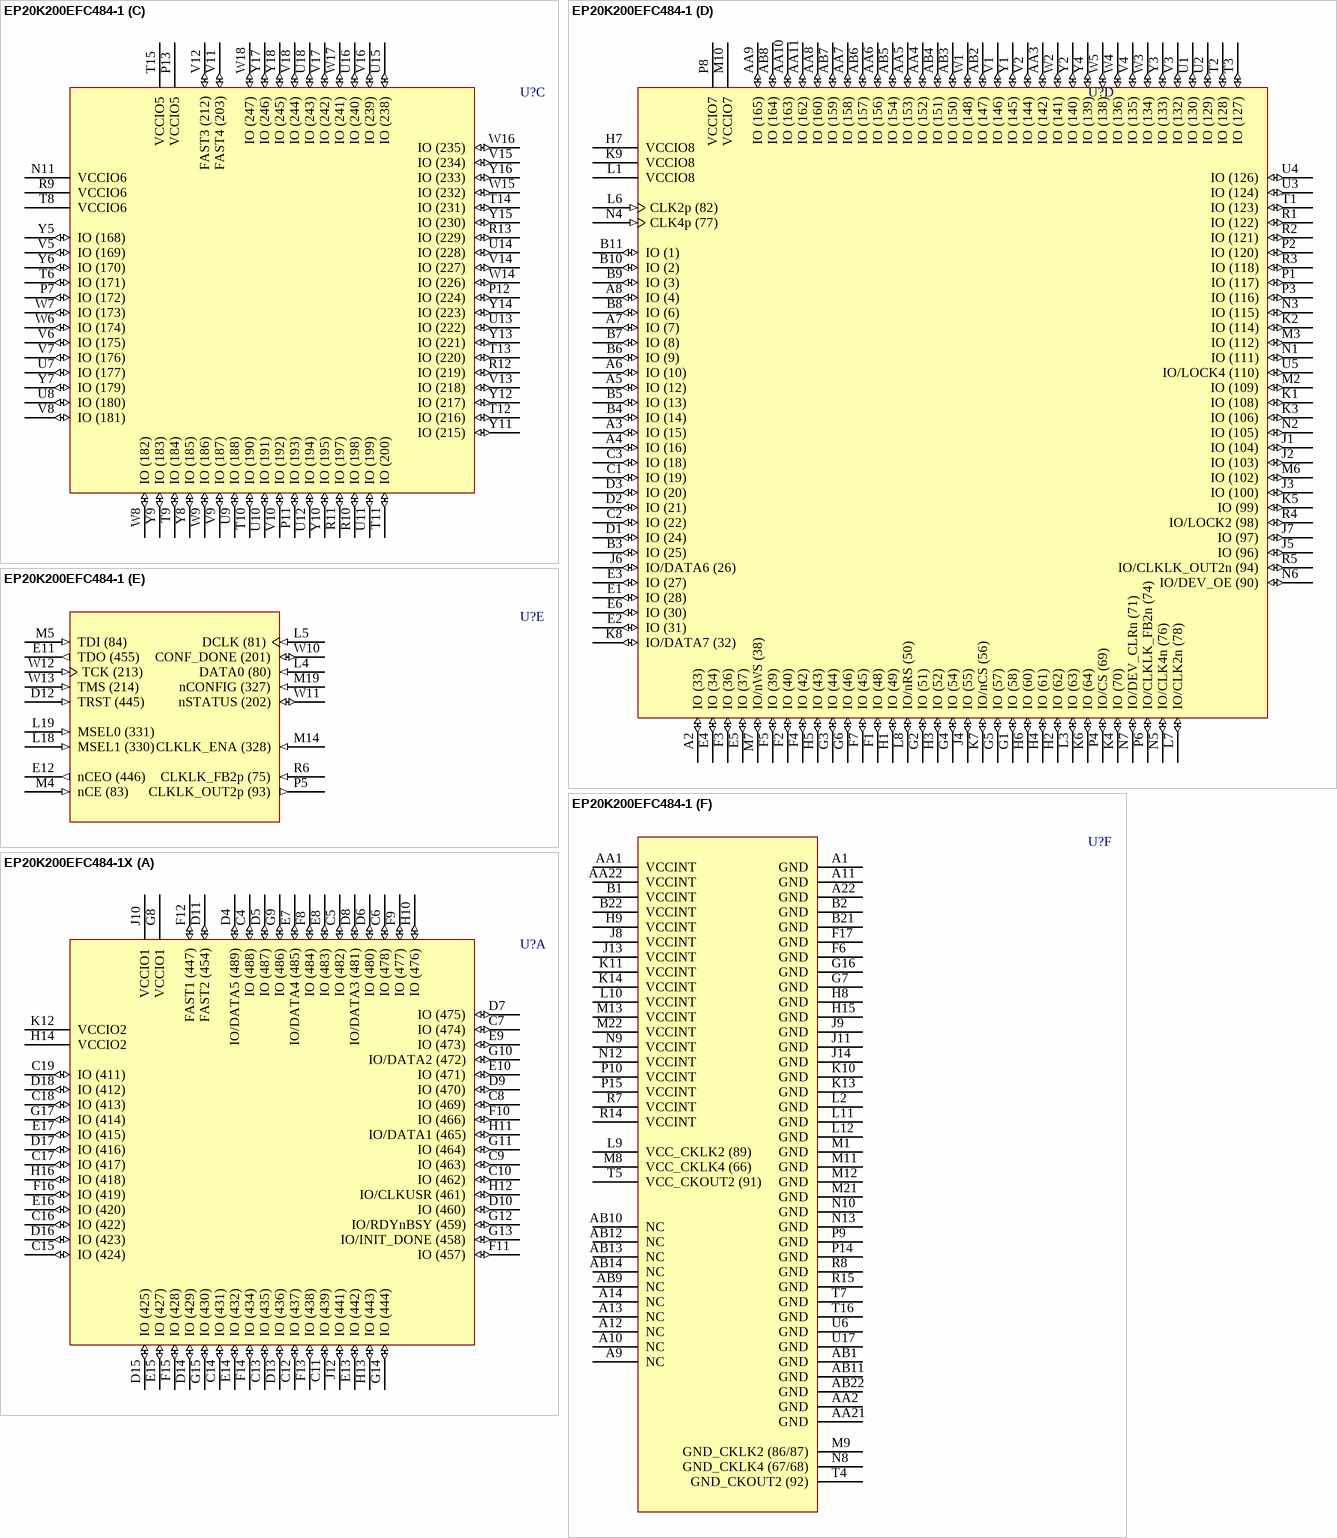
[diagram p181: symbols EP20K200EFC484-1 to EP20K200EFC484-1X]

## EP20K200EFC484-1
designator U?
APEX 20K200E PLD, 484-Pin FBGA, Commercial Grade, Speed Grade 1; Published: 17-Jul-2002; LatestRevisionDate: 13-Apr-2006; LatestRevisionNote: IPC-7351 Footprint Added.; DatasheetVersion: Mar-2004; PackageVersion: ver14.1, Oct-2005; PackageReference: FBGA484; Publisher: Altium Limited; PackageDescription: 484-Ball FineLine Ball Grid Array (FBGA484) - Flip Chip; Code_JEDEC: MS-034-AAJ-1; Code_IPC: BGA100P22X22-484; ComponentLink1Description: Manufacturer Link; ComponentLink1URL: http://www.altera.com/products/devices/apex/apx-index.html; ComponentLink2Description: Datasheet; ComponentLink2URL: http://www.altera.com/literature/ds/apex.pdf
footprint FBGA484 (BGA, 484-Leads, Body 23x23mm, Pitch 1mm)
3D model EP20K200E-FBGA484 (484-Ball FineLine Ball Grid Array (FBGA484) - Flip Chip)
part A pins: C4 IO (488) (io), C5 IO (482) (io), C6 IO (478) (io), C7 IO (474) (io), C8 IO (469) (io), C9 IO (463) (io), C10 IO (462) (io), C11 IO (439) (io), C12 IO (437) (io), C13 IO (435) (io), C14 IO (431) (io), C15 IO (424) (io), C16 IO (422) (io), C17 IO (417) (io), C18 IO (413) (io), C19 IO (411) (io), D4 IO/DATA5 (489) (io), D5 IO (487) (io), D6 IO (480) (io), D7 IO (475) (io), D8 IO/DATA3 (481) (io), D9 IO (470) (io), D10 IO (460) (io), D11 FAST2 (454) (io), D13 IO (436) (io), D14 IO (429) (io), D15 IO (425) (io), D16 IO (423) (io), D17 IO (416) (io), D18 IO (412) (io), E7 IO/DATA4 (485) (io), E8 IO (483) (io), E9 IO (473) (io), E10 IO (471) (io), E13 IO (442) (io), E14 IO (432) (io), E15 IO (427) (io), E16 IO (420) (io), E17 IO (415) (io), F8 IO (484) (io), F9 IO (477) (io), F10 IO (466) (io), F11 IO (457) (io), F12 FAST1 (447) (io), F13 IO (438) (io), F14 IO (434) (io), F15 IO (428) (io), F16 IO (419) (io), G8 VCCIO1 (power), G9 IO (486) (io), G10 IO/DATA2 (472) (io), G11 IO (464) (io), G12 IO/RDYnBSY (459) (io), G13 IO/INIT_DONE (458) (io), G14 IO (444) (io), G15 IO (430) (io), G17 IO (414) (io), H10 IO (476) (io), H11 IO/DATA1 (465) (io), H12 IO/CLKUSR (461) (io), H13 IO (443) (io), H14 VCCIO2 (power), H16 IO (418) (io), J10 VCCIO1 (power), J12 IO (441) (io), K12 VCCIO2 (power)
part B pins: A15 IO (405) (io), A16 IO (402) (io), A17 IO (400) (io), A18 IO (397) (io), A19 IO (395) (io), A20 IO (393) (io), A21 IO (389) (io), AA12 IO (250) (io), AA13 IO (253) (io), AA14 IO (256) (io), AA15 IO (257) (io), AA16 IO (259) (io), AA17 IO (263) (io), AA18 IO (264) (io), AA19 IO (269) (io), AA20 IO (268) (io), AB15 IO (251) (io), AB16 IO (252) (io), AB17 IO (255) (io), AB18 IO (258) (io), AB19 IO (261) (io), AB20 IO (262) (io), AB21 IO (265) (io), B12 IO (408) (io), B13 IO (407) (io), B14 IO (406) (io), B15 IO (403) (io), B16 IO (401) (io), B17 IO (399) (io), B18 IO (396) (io), B19 IO (394) (io), B20 IO (384) (io), C20 IO (382) (io), C21 IO (383) (io), C22 IO (387) (io), D19 IO (381) (io), D20 IO (378) (io), D21 IO (391) (io), D22 IO (385) (io), E18 IO (379) (io), E19 IO (376) (io), E20 IO (369) (io), E21 IO (390) (io), E22 IO (373) (io), F18 IO (370) (io), F19 IO (375) (io), F20 IO (371) (io), F21 IO (388) (io), F22 IO (365) (io), G18 IO (367) (io), G19 IO (377) (io), G20 IO (372) (io), G21 IO (354) (io), G22 IO (358) (io), H17 IO (366) (io), H18 IO (361) (io), H19 IO (359) (io), H20 IO (363) (io), H21 IO (360) (io), H22 IO (364) (io), J15 VCCIO3 (power), J16 IO (357) (io), J17 IO (355) (io), J18 IO (322) (io), J19 IO (349) (io), J20 IO (348) (io), J21 IO (351) (io), J22 IO (352) (io), K15 IO (333) (io), K16 IO (335) (io), K17 CLK3p (324) (in), K18 IO/CLK3n (323) (io), K19 IO (342) (io), K20 IO (345) (io), K21 IO (347) (io), K22 IO (343) (io), L13 VCCIO3 (power), L14 IO (304) (io), L15 IO (310) (io), L16 IO (317) (io), L17 IO (319) (io), L20 IO (321) (io), L21 IO (353) (io), L22 VCCIO4 (power), M15 IO (298) (io), M16 IO (309) (io), M17 IO/CLK1n (325) (io), M18 CLK1p (329) (in), M20 IO (316) (io), N14 VCCIO4 (power), N15 IO (293) (io), N16 IO (299) (io), N17 IO (306) (io), N18 IO (315) (io), N19 IO (312) (io), N20 IO (346) (io), N21 IO (337) (io), N22 IO (340) (io), P16 IO (283) (io), P17 IO (295) (io), P18 IO (301) (io), P19 IO (311) (io), P20 IO (334) (io), P21 IO (336) (io), P22 IO (341) (io), R16 VCCIO4 (power), R17 IO (280) (io), R18 IO (292) (io), R19 IO (297) (io), R20 IO (313) (io), R21 IO (318) (io), R22 IO (339) (io), T17 IO (282) (io), T18 IO (286) (io), T19 IO (287) (io), T20 IO (305) (io), T21 IO (307) (io), T22 IO (303) (io), U19 IO (285) (io), U20 IO (289) (io), U21 IO (294) (io), U22 IO (300) (io), V19 IO (288) (io), V20 IO (277) (io), V21 IO (270) (io), V22 IO (271) (io), W19 IO (276) (io), W20 IO (291) (io), W21 IO (273) (io), W22 IO (274) (io), Y19 IO (279) (io), Y20 IO (281) (io), Y21 IO (275) (io), Y22 IO (267) (io)
part C pins: N11 VCCIO6 (power), P7 IO (172) (io), P11 IO (193) (io), P12 IO (224) (io), P13 VCCIO5 (power), R9 VCCIO6 (power), R10 IO (198) (io), R11 IO (197) (io), R12 IO (219) (io), R13 IO (229) (io), T6 IO (171) (io), T8 VCCIO6 (power), T9 IO (184) (io), T10 IO (190) (io), T11 IO (200) (io), T12 IO (216) (io), T13 IO (220) (io), T14 IO (231) (io), T15 VCCIO5 (power), U7 IO (177) (io), U8 IO (180) (io), U9 IO (188) (io), U10 IO (191) (io), U11 IO (199) (io), U12 IO (194) (io), U13 IO (222) (io), U14 IO (228) (io), U15 IO (238) (io), U16 IO (240) (io), U18 IO (243) (io), V5 IO (169) (io), V6 IO (175) (io), V7 IO (176) (io), V8 IO (181) (io), V9 IO (187) (io), V10 IO (192) (io), V11 FAST4 (203) (io), V12 FAST3 (212) (io), V13 IO (218) (io), V14 IO (227) (io), V15 IO (234) (io), V16 IO (239) (io), V17 IO (242) (io), V18 IO (244) (io), W6 IO (174) (io), W7 IO (173) (io), W8 IO (182) (io), W9 IO (186) (io), W14 IO (226) (io), W15 IO (232) (io), W16 IO (235) (io), W17 IO (241) (io), W18 IO (247) (io), Y5 IO (168) (io), Y6 IO (170) (io), Y7 IO (179) (io), Y8 IO (185) (io), Y9 IO (183) (io), Y10 IO (195) (io), Y11 IO (215) (io), Y12 IO (217) (io), Y13 IO (221) (io), Y14 IO (223) (io), Y15 IO (230) (io), Y16 IO (233) (io), Y17 IO (246) (io), Y18 IO (245) (io)
part D pins: A2 IO (33) (io), A3 IO (15) (io), A4 IO (16) (io), A5 IO (12) (io), A6 IO (10) (io), A7 IO (7) (io), A8 IO (4) (io), AA3 IO (142) (io), AA4 IO (152) (io), AA5 IO (153) (io), AA6 IO (156) (io), AA7 IO (158) (io), AA8 IO (160) (io), AA9 IO (165) (io), AA10 IO (163) (io), AA11 IO (162) (io), AB2 IO (147) (io), AB3 IO (150) (io), AB4 IO (151) (io), AB5 IO (154) (io), AB6 IO (157) (io), AB7 IO (159) (io), AB8 IO (164) (io), B3 IO (25) (io), B4 IO (14) (io), B5 IO (13) (io), B6 IO (9) (io), B7 IO (8) (io), B8 IO (6) (io), B9 IO (3) (io), B10 IO (2) (io), B11 IO (1) (io), C1 IO (19) (io), C2 IO (22) (io), C3 IO (18) (io), D1 IO (24) (io), D2 IO (21) (io), D3 IO (20) (io), E1 IO (28) (io), E2 IO (31) (io), E3 IO (27) (io), E4 IO (34) (io), E5 IO (37) (io), E6 IO (30) (io), F1 IO (48) (io), F2 IO (40) (io), F3 IO (36) (io), F4 IO (42) (io), F5 IO (39) (io), F7 IO (45) (io), G1 IO (58) (io), G2 IO (51) (io), G3 IO (44) (io), G4 IO (54) (io), G5 IO (57) (io), G6 IO (46) (io), H1 IO (49) (io), H2 IO (62) (io), H3 IO (52) (io), H4 IO (61) (io), H5 IO (43) (io), H6 IO (60) (io), H7 VCCIO8 (power), J1 IO (104) (io), J2 IO (103) (io), J3 IO (100) (io), J4 IO (55) (io), J5 IO (96) (io), J6 IO/DATA6 (26) (io), J7 IO (97) (io), K1 IO (108) (io), K2 IO (114) (io), K3 IO (106) (io), K4 IO (70) (io), K5 IO (99) (io), K6 IO (64) (io), K7 IO/nCS (56) (io), K8 IO/DATA7 (32) (io), K9 VCCIO8 (power), L1 VCCIO8 (power), L3 IO (63) (io), L6 CLK2p (82) (in), L7 IO/CLK2n (78) (io), L8 IO/nRS (50) (io), M2 IO (109) (io), M3 IO (112) (io), M6 IO (102) (io), M7 IO/nWS (38) (io), M10 VCCIO7 (power), N1 IO (111) (io), N2 IO (105) (io), N3 IO (115) (io), N4 CLK4p (77) (in), N5 IO/CLK4n (76) (io), N6 IO/DEV_OE (90) (io), N7 IO/DEV_CLRn (71) (io), P1 IO (117) (io), P2 IO (120) (io), P3 IO (116) (io), P4 IO/CS (69) (io), P6 IO/CLKLK_FB2n (74) (io), P8 VCCIO7 (power), R1 IO (122) (io), R2 IO (121) (io), R3 IO (118) (io), R4 IO/LOCK2 (98) (io), R5 IO/CLKLK_OUT2n (94) (io), T1 IO (123) (io), T2 IO (128) (io), T3 IO (127) (io), U1 IO (130) (io), U2 IO (129) (io), U3 IO (124) (io), U4 IO (126) (io), U5 IO/LOCK4 (110) (io), V1 IO (146) (io), V2 IO (144) (io), V3 IO (132) (io), V4 IO (135) (io), W1 IO (148) (io), W2 IO (141) (io), W3 IO (134) (io), W4 IO (136) (io), W5 IO (138) (io), Y1 IO (145) (io), Y2 IO (140) (io), Y3 IO (133) (io), Y4 IO (139) (io)
part E pins: D12 TRST (445) (in), E11 TDO (455) (out), E12 nCEO (446) (out), L4 DATA0 (80) (in), L5 DCLK (81) (in), L18 MSEL1 (330) (in), L19 MSEL0 (331) (in), M4 nCE (83) (in), M5 TDI (84) (in), M14 CLKLK_ENA (328) (in), M19 nCONFIG (327) (in), P5 CLKLK_OUT2p (93) (out), R6 CLKLK_FB2p (75) (in), W10 CONF_DONE (201) (io), W11 nSTATUS (202) (io), W12 TCK (213) (in), W13 TMS (214) (in)
part F pins: A1 GND (power), A9 NC, A10 NC, A11 GND (power), A12 NC, A13 NC, A14 NC, A22 GND (power), AA1 VCCINT (power), AA2 GND (power), AA21 GND (power), AA22 VCCINT (power), AB1 GND (power), AB9 NC, AB10 NC, AB11 GND (power), AB12 NC, AB13 NC, AB14 NC, AB22 GND (power), B1 VCCINT (power), B2 GND (power), B21 GND (power), B22 VCCINT (power), F6 GND (power), F17 GND (power), G7 GND (power), G16 GND (power), H8 GND (power), H9 VCCINT (power), H15 GND (power), J8 VCCINT (power), J9 GND (power), J11 GND (power), J13 VCCINT (power), J14 GND (power), K10 GND (power), K11 VCCINT (power), K13 GND (power), K14 VCCINT (power), L2 GND (power), L9 VCC_CKLK2 (89) (power), L10 VCCINT (power), L11 GND (power), L12 GND (power), M1 GND (power), M8 VCC_CKLK4 (66) (power), M9 GND_CKLK2 (86/87) (power), M11 GND (power), M12 GND (power), M13 VCCINT (power), M21 GND (power), M22 VCCINT (power), N8 GND_CKLK4 (67/68) (power), N9 VCCINT (power), N10 GND (power), N12 VCCINT (power), N13 GND (power), P9 GND (power), P10 VCCINT (power), P14 GND (power), P15 VCCINT (power), R7 VCCINT (power), R8 GND (power), R14 VCCINT (power), R15 GND (power), T4 GND_CKOUT2 (92) (power), T5 VCC_CKOUT2 (91) (power), T7 GND (power), T16 GND (power), U6 GND (power), U17 GND (power)

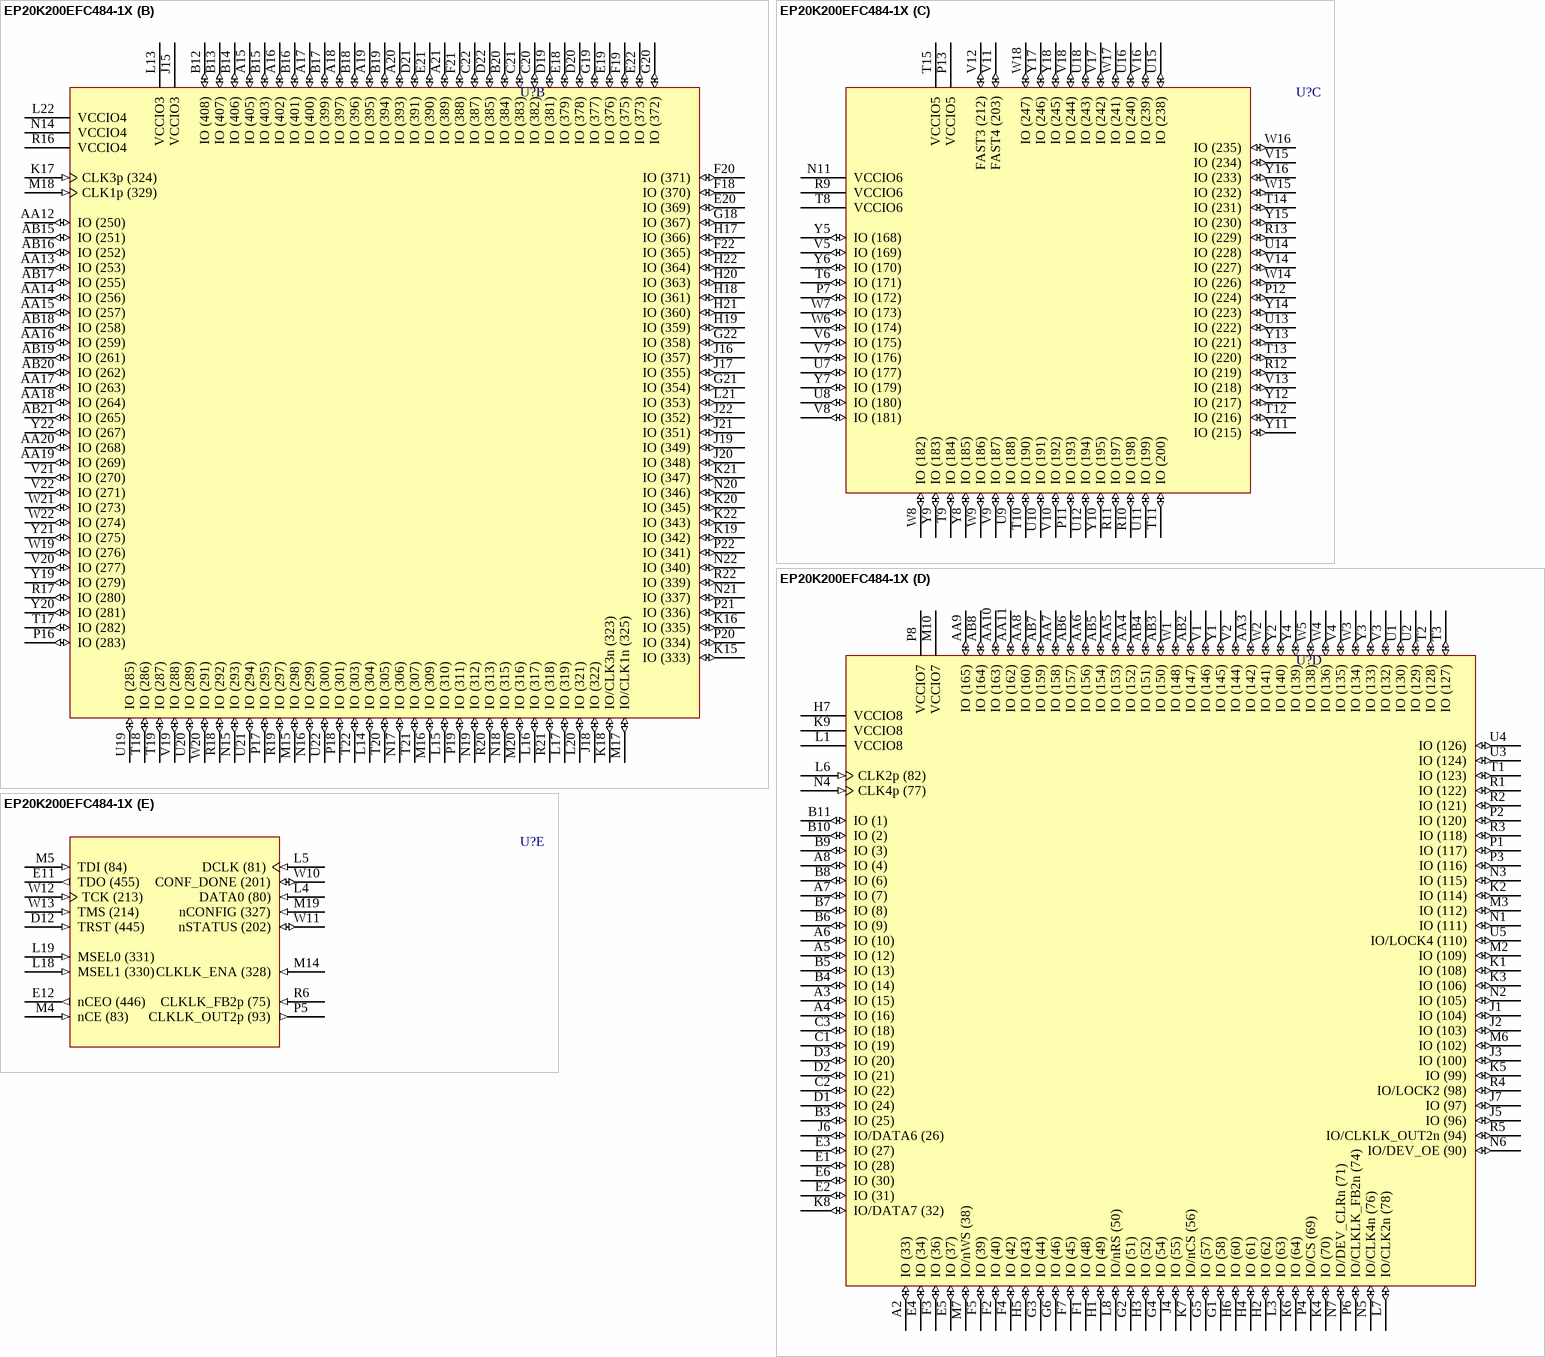
[diagram p182: symbol EP20K200EFC484-1X]

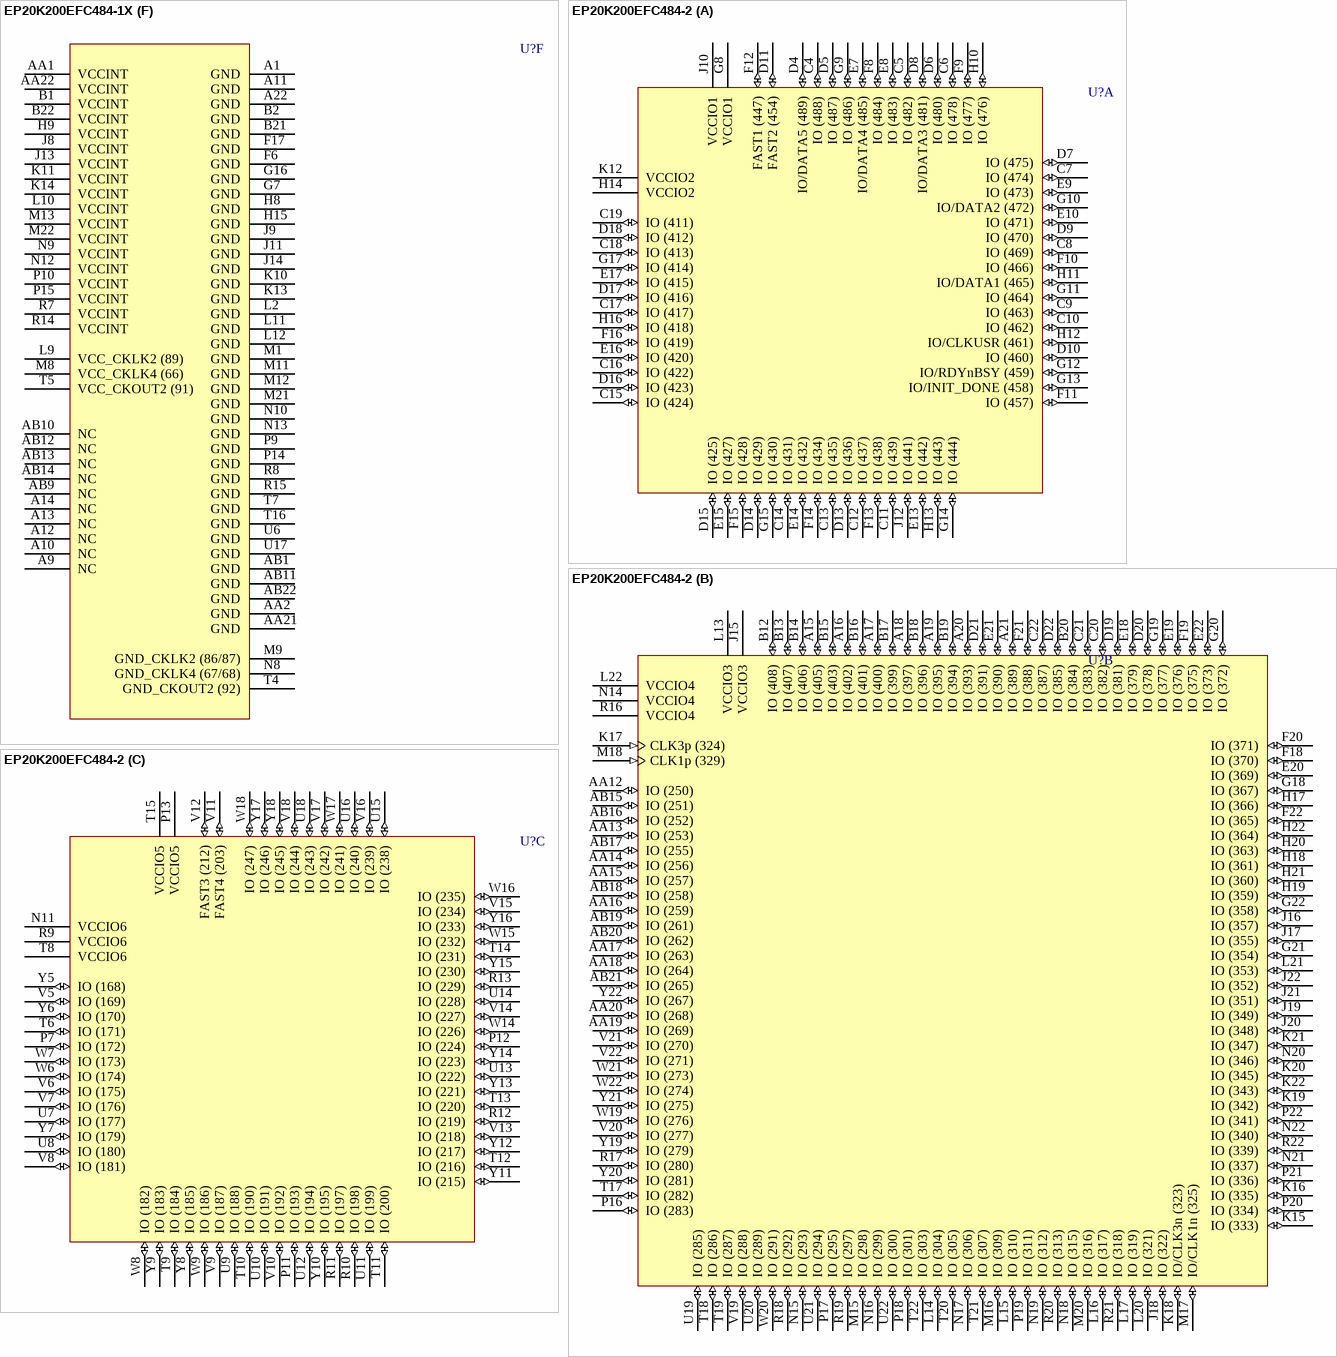
[diagram p183: symbols EP20K200EFC484-1X to EP20K200EFC484-2]

## EP20K200EFC484-1X
designator U?
APEX 20K200E PLD with PLLs and LVDS, 484-Pin FBGA, Commercial Grade, Speed Grade 1; Published: 17-Jul-2002; LatestRevisionDate: 13-Apr-2006; LatestRevisionNote: IPC-7351 Footprint Added.; DatasheetVersion: Mar-2004; PackageVersion: ver14.1, Oct-2005; PackageReference: FBGA484; Publisher: Altium Limited; PackageDescription: 484-Ball FineLine Ball Grid Array (FBGA484) - Flip Chip; Code_JEDEC: MS-034-AAJ-1; Code_IPC: BGA100P22X22-484; ComponentLink1Description: Manufacturer Link; ComponentLink1URL: http://www.altera.com/products/devices/apex/apx-index.html; ComponentLink2Description: Datasheet; ComponentLink2URL: http://www.altera.com/literature/ds/apex.pdf
footprint FBGA484 (BGA, 484-Leads, Body 23x23mm, Pitch 1mm)
3D model EP20K200E-FBGA484 (484-Ball FineLine Ball Grid Array (FBGA484) - Flip Chip)
part A pins: C4 IO (488) (io), C5 IO (482) (io), C6 IO (478) (io), C7 IO (474) (io), C8 IO (469) (io), C9 IO (463) (io), C10 IO (462) (io), C11 IO (439) (io), C12 IO (437) (io), C13 IO (435) (io), C14 IO (431) (io), C15 IO (424) (io), C16 IO (422) (io), C17 IO (417) (io), C18 IO (413) (io), C19 IO (411) (io), D4 IO/DATA5 (489) (io), D5 IO (487) (io), D6 IO (480) (io), D7 IO (475) (io), D8 IO/DATA3 (481) (io), D9 IO (470) (io), D10 IO (460) (io), D11 FAST2 (454) (io), D13 IO (436) (io), D14 IO (429) (io), D15 IO (425) (io), D16 IO (423) (io), D17 IO (416) (io), D18 IO (412) (io), E7 IO/DATA4 (485) (io), E8 IO (483) (io), E9 IO (473) (io), E10 IO (471) (io), E13 IO (442) (io), E14 IO (432) (io), E15 IO (427) (io), E16 IO (420) (io), E17 IO (415) (io), F8 IO (484) (io), F9 IO (477) (io), F10 IO (466) (io), F11 IO (457) (io), F12 FAST1 (447) (io), F13 IO (438) (io), F14 IO (434) (io), F15 IO (428) (io), F16 IO (419) (io), G8 VCCIO1 (power), G9 IO (486) (io), G10 IO/DATA2 (472) (io), G11 IO (464) (io), G12 IO/RDYnBSY (459) (io), G13 IO/INIT_DONE (458) (io), G14 IO (444) (io), G15 IO (430) (io), G17 IO (414) (io), H10 IO (476) (io), H11 IO/DATA1 (465) (io), H12 IO/CLKUSR (461) (io), H13 IO (443) (io), H14 VCCIO2 (power), H16 IO (418) (io), J10 VCCIO1 (power), J12 IO (441) (io), K12 VCCIO2 (power)
part B pins: A15 IO (405) (io), A16 IO (402) (io), A17 IO (400) (io), A18 IO (397) (io), A19 IO (395) (io), A20 IO (393) (io), A21 IO (389) (io), AA12 IO (250) (io), AA13 IO (253) (io), AA14 IO (256) (io), AA15 IO (257) (io), AA16 IO (259) (io), AA17 IO (263) (io), AA18 IO (264) (io), AA19 IO (269) (io), AA20 IO (268) (io), AB15 IO (251) (io), AB16 IO (252) (io), AB17 IO (255) (io), AB18 IO (258) (io), AB19 IO (261) (io), AB20 IO (262) (io), AB21 IO (265) (io), B12 IO (408) (io), B13 IO (407) (io), B14 IO (406) (io), B15 IO (403) (io), B16 IO (401) (io), B17 IO (399) (io), B18 IO (396) (io), B19 IO (394) (io), B20 IO (384) (io), C20 IO (382) (io), C21 IO (383) (io), C22 IO (387) (io), D19 IO (381) (io), D20 IO (378) (io), D21 IO (391) (io), D22 IO (385) (io), E18 IO (379) (io), E19 IO (376) (io), E20 IO (369) (io), E21 IO (390) (io), E22 IO (373) (io), F18 IO (370) (io), F19 IO (375) (io), F20 IO (371) (io), F21 IO (388) (io), F22 IO (365) (io), G18 IO (367) (io), G19 IO (377) (io), G20 IO (372) (io), G21 IO (354) (io), G22 IO (358) (io), H17 IO (366) (io), H18 IO (361) (io), H19 IO (359) (io), H20 IO (363) (io), H21 IO (360) (io), H22 IO (364) (io), J15 VCCIO3 (power), J16 IO (357) (io), J17 IO (355) (io), J18 IO (322) (io), J19 IO (349) (io), J20 IO (348) (io), J21 IO (351) (io), J22 IO (352) (io), K15 IO (333) (io), K16 IO (335) (io), K17 CLK3p (324) (in), K18 IO/CLK3n (323) (io), K19 IO (342) (io), K20 IO (345) (io), K21 IO (347) (io), K22 IO (343) (io), L13 VCCIO3 (power), L14 IO (304) (io), L15 IO (310) (io), L16 IO (317) (io), L17 IO (319) (io), L20 IO (321) (io), L21 IO (353) (io), L22 VCCIO4 (power), M15 IO (298) (io), M16 IO (309) (io), M17 IO/CLK1n (325) (io), M18 CLK1p (329) (in), M20 IO (316) (io), N14 VCCIO4 (power), N15 IO (293) (io), N16 IO (299) (io), N17 IO (306) (io), N18 IO (315) (io), N19 IO (312) (io), N20 IO (346) (io), N21 IO (337) (io), N22 IO (340) (io), P16 IO (283) (io), P17 IO (295) (io), P18 IO (301) (io), P19 IO (311) (io), P20 IO (334) (io), P21 IO (336) (io), P22 IO (341) (io), R16 VCCIO4 (power), R17 IO (280) (io), R18 IO (292) (io), R19 IO (297) (io), R20 IO (313) (io), R21 IO (318) (io), R22 IO (339) (io), T17 IO (282) (io), T18 IO (286) (io), T19 IO (287) (io), T20 IO (305) (io), T21 IO (307) (io), T22 IO (303) (io), U19 IO (285) (io), U20 IO (289) (io), U21 IO (294) (io), U22 IO (300) (io), V19 IO (288) (io), V20 IO (277) (io), V21 IO (270) (io), V22 IO (271) (io), W19 IO (276) (io), W20 IO (291) (io), W21 IO (273) (io), W22 IO (274) (io), Y19 IO (279) (io), Y20 IO (281) (io), Y21 IO (275) (io), Y22 IO (267) (io)
part C pins: N11 VCCIO6 (power), P7 IO (172) (io), P11 IO (193) (io), P12 IO (224) (io), P13 VCCIO5 (power), R9 VCCIO6 (power), R10 IO (198) (io), R11 IO (197) (io), R12 IO (219) (io), R13 IO (229) (io), T6 IO (171) (io), T8 VCCIO6 (power), T9 IO (184) (io), T10 IO (190) (io), T11 IO (200) (io), T12 IO (216) (io), T13 IO (220) (io), T14 IO (231) (io), T15 VCCIO5 (power), U7 IO (177) (io), U8 IO (180) (io), U9 IO (188) (io), U10 IO (191) (io), U11 IO (199) (io), U12 IO (194) (io), U13 IO (222) (io), U14 IO (228) (io), U15 IO (238) (io), U16 IO (240) (io), U18 IO (243) (io), V5 IO (169) (io), V6 IO (175) (io), V7 IO (176) (io), V8 IO (181) (io), V9 IO (187) (io), V10 IO (192) (io), V11 FAST4 (203) (io), V12 FAST3 (212) (io), V13 IO (218) (io), V14 IO (227) (io), V15 IO (234) (io), V16 IO (239) (io), V17 IO (242) (io), V18 IO (244) (io), W6 IO (174) (io), W7 IO (173) (io), W8 IO (182) (io), W9 IO (186) (io), W14 IO (226) (io), W15 IO (232) (io), W16 IO (235) (io), W17 IO (241) (io), W18 IO (247) (io), Y5 IO (168) (io), Y6 IO (170) (io), Y7 IO (179) (io), Y8 IO (185) (io), Y9 IO (183) (io), Y10 IO (195) (io), Y11 IO (215) (io), Y12 IO (217) (io), Y13 IO (221) (io), Y14 IO (223) (io), Y15 IO (230) (io), Y16 IO (233) (io), Y17 IO (246) (io), Y18 IO (245) (io)
part D pins: A2 IO (33) (io), A3 IO (15) (io), A4 IO (16) (io), A5 IO (12) (io), A6 IO (10) (io), A7 IO (7) (io), A8 IO (4) (io), AA3 IO (142) (io), AA4 IO (152) (io), AA5 IO (153) (io), AA6 IO (156) (io), AA7 IO (158) (io), AA8 IO (160) (io), AA9 IO (165) (io), AA10 IO (163) (io), AA11 IO (162) (io), AB2 IO (147) (io), AB3 IO (150) (io), AB4 IO (151) (io), AB5 IO (154) (io), AB6 IO (157) (io), AB7 IO (159) (io), AB8 IO (164) (io), B3 IO (25) (io), B4 IO (14) (io), B5 IO (13) (io), B6 IO (9) (io), B7 IO (8) (io), B8 IO (6) (io), B9 IO (3) (io), B10 IO (2) (io), B11 IO (1) (io), C1 IO (19) (io), C2 IO (22) (io), C3 IO (18) (io), D1 IO (24) (io), D2 IO (21) (io), D3 IO (20) (io), E1 IO (28) (io), E2 IO (31) (io), E3 IO (27) (io), E4 IO (34) (io), E5 IO (37) (io), E6 IO (30) (io), F1 IO (48) (io), F2 IO (40) (io), F3 IO (36) (io), F4 IO (42) (io), F5 IO (39) (io), F7 IO (45) (io), G1 IO (58) (io), G2 IO (51) (io), G3 IO (44) (io), G4 IO (54) (io), G5 IO (57) (io), G6 IO (46) (io), H1 IO (49) (io), H2 IO (62) (io), H3 IO (52) (io), H4 IO (61) (io), H5 IO (43) (io), H6 IO (60) (io), H7 VCCIO8 (power), J1 IO (104) (io), J2 IO (103) (io), J3 IO (100) (io), J4 IO (55) (io), J5 IO (96) (io), J6 IO/DATA6 (26) (io), J7 IO (97) (io), K1 IO (108) (io), K2 IO (114) (io), K3 IO (106) (io), K4 IO (70) (io), K5 IO (99) (io), K6 IO (64) (io), K7 IO/nCS (56) (io), K8 IO/DATA7 (32) (io), K9 VCCIO8 (power), L1 VCCIO8 (power), L3 IO (63) (io), L6 CLK2p (82) (in), L7 IO/CLK2n (78) (io), L8 IO/nRS (50) (io), M2 IO (109) (io), M3 IO (112) (io), M6 IO (102) (io), M7 IO/nWS (38) (io), M10 VCCIO7 (power), N1 IO (111) (io), N2 IO (105) (io), N3 IO (115) (io), N4 CLK4p (77) (in), N5 IO/CLK4n (76) (io), N6 IO/DEV_OE (90) (io), N7 IO/DEV_CLRn (71) (io), P1 IO (117) (io), P2 IO (120) (io), P3 IO (116) (io), P4 IO/CS (69) (io), P6 IO/CLKLK_FB2n (74) (io), P8 VCCIO7 (power), R1 IO (122) (io), R2 IO (121) (io), R3 IO (118) (io), R4 IO/LOCK2 (98) (io), R5 IO/CLKLK_OUT2n (94) (io), T1 IO (123) (io), T2 IO (128) (io), T3 IO (127) (io), U1 IO (130) (io), U2 IO (129) (io), U3 IO (124) (io), U4 IO (126) (io), U5 IO/LOCK4 (110) (io), V1 IO (146) (io), V2 IO (144) (io), V3 IO (132) (io), V4 IO (135) (io), W1 IO (148) (io), W2 IO (141) (io), W3 IO (134) (io), W4 IO (136) (io), W5 IO (138) (io), Y1 IO (145) (io), Y2 IO (140) (io), Y3 IO (133) (io), Y4 IO (139) (io)
part E pins: D12 TRST (445) (in), E11 TDO (455) (out), E12 nCEO (446) (out), L4 DATA0 (80) (in), L5 DCLK (81) (in), L18 MSEL1 (330) (in), L19 MSEL0 (331) (in), M4 nCE (83) (in), M5 TDI (84) (in), M14 CLKLK_ENA (328) (in), M19 nCONFIG (327) (in), P5 CLKLK_OUT2p (93) (out), R6 CLKLK_FB2p (75) (in), W10 CONF_DONE (201) (io), W11 nSTATUS (202) (io), W12 TCK (213) (in), W13 TMS (214) (in)
part F pins: A1 GND (power), A9 NC, A10 NC, A11 GND (power), A12 NC, A13 NC, A14 NC, A22 GND (power), AA1 VCCINT (power), AA2 GND (power), AA21 GND (power), AA22 VCCINT (power), AB1 GND (power), AB9 NC, AB10 NC, AB11 GND (power), AB12 NC, AB13 NC, AB14 NC, AB22 GND (power), B1 VCCINT (power), B2 GND (power), B21 GND (power), B22 VCCINT (power), F6 GND (power), F17 GND (power), G7 GND (power), G16 GND (power), H8 GND (power), H9 VCCINT (power), H15 GND (power), J8 VCCINT (power), J9 GND (power), J11 GND (power), J13 VCCINT (power), J14 GND (power), K10 GND (power), K11 VCCINT (power), K13 GND (power), K14 VCCINT (power), L2 GND (power), L9 VCC_CKLK2 (89) (power), L10 VCCINT (power), L11 GND (power), L12 GND (power), M1 GND (power), M8 VCC_CKLK4 (66) (power), M9 GND_CKLK2 (86/87) (power), M11 GND (power), M12 GND (power), M13 VCCINT (power), M21 GND (power), M22 VCCINT (power), N8 GND_CKLK4 (67/68) (power), N9 VCCINT (power), N10 GND (power), N12 VCCINT (power), N13 GND (power), P9 GND (power), P10 VCCINT (power), P14 GND (power), P15 VCCINT (power), R7 VCCINT (power), R8 GND (power), R14 VCCINT (power), R15 GND (power), T4 GND_CKOUT2 (92) (power), T5 VCC_CKOUT2 (91) (power), T7 GND (power), T16 GND (power), U6 GND (power), U17 GND (power)

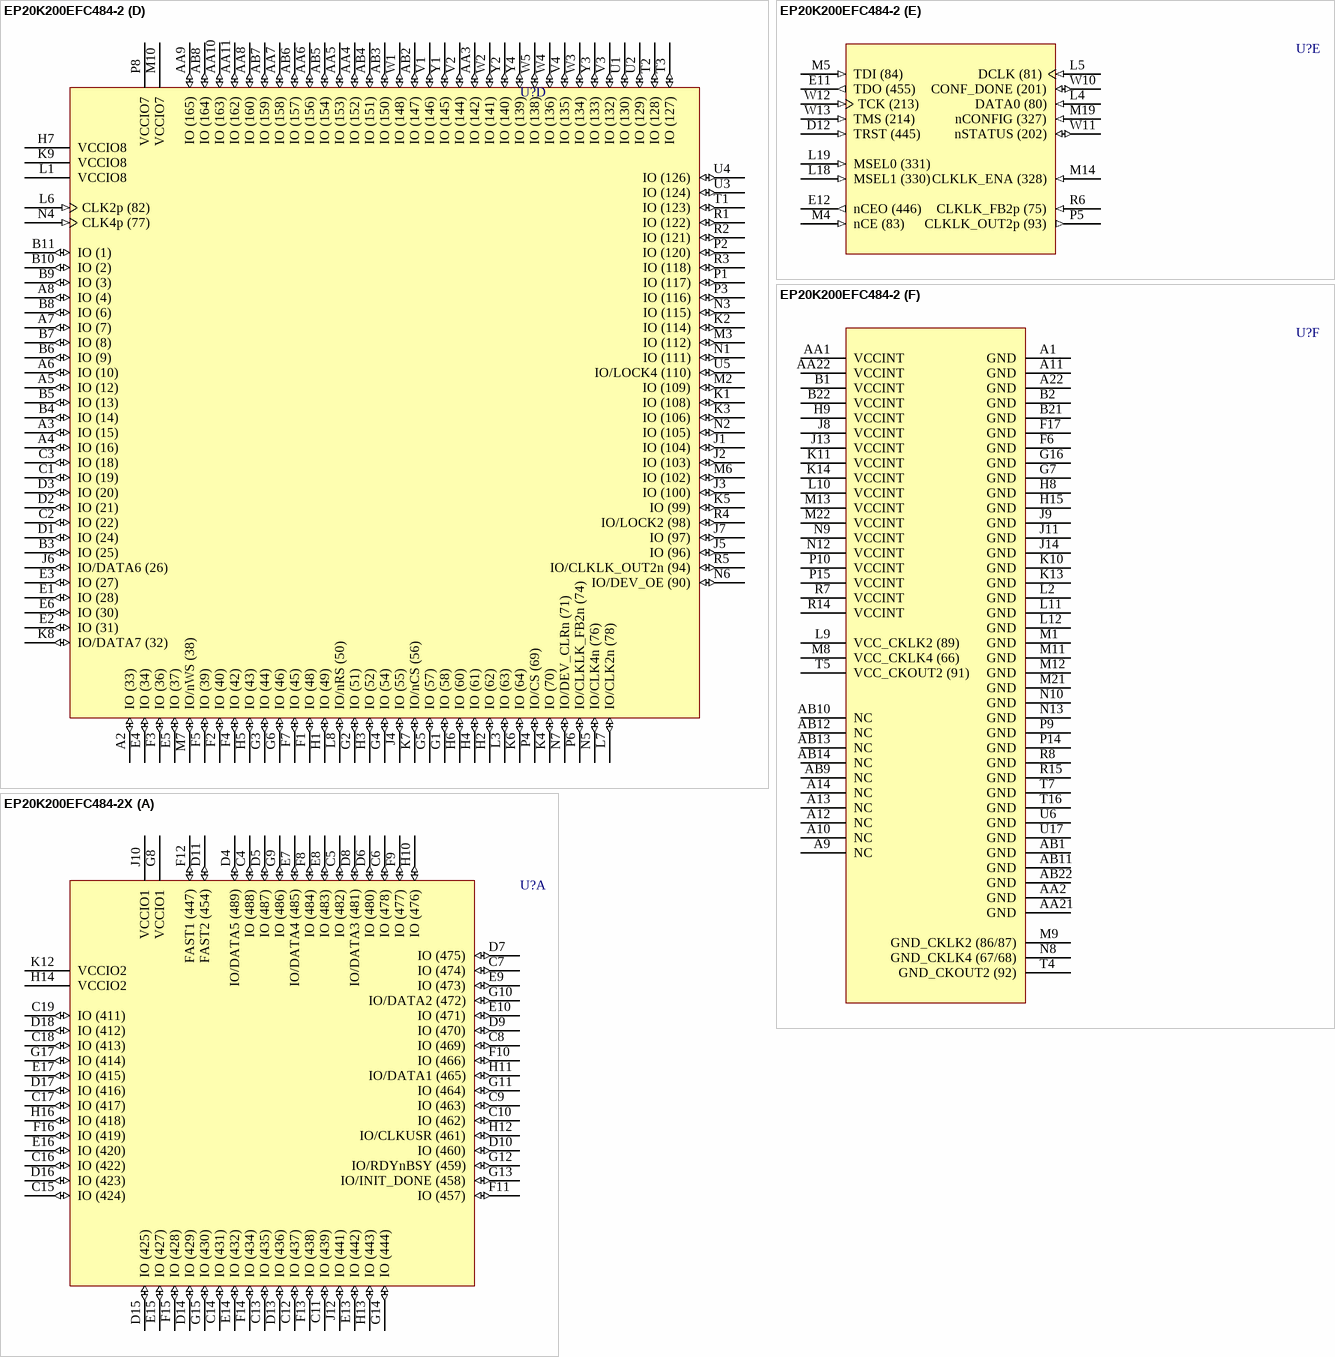
[diagram p184: symbols EP20K200EFC484-2 to EP20K200EFC484-2X]